# Altium integrated library Actel Axcelerator.IntLib: 162 symbols (part 5 of 43)
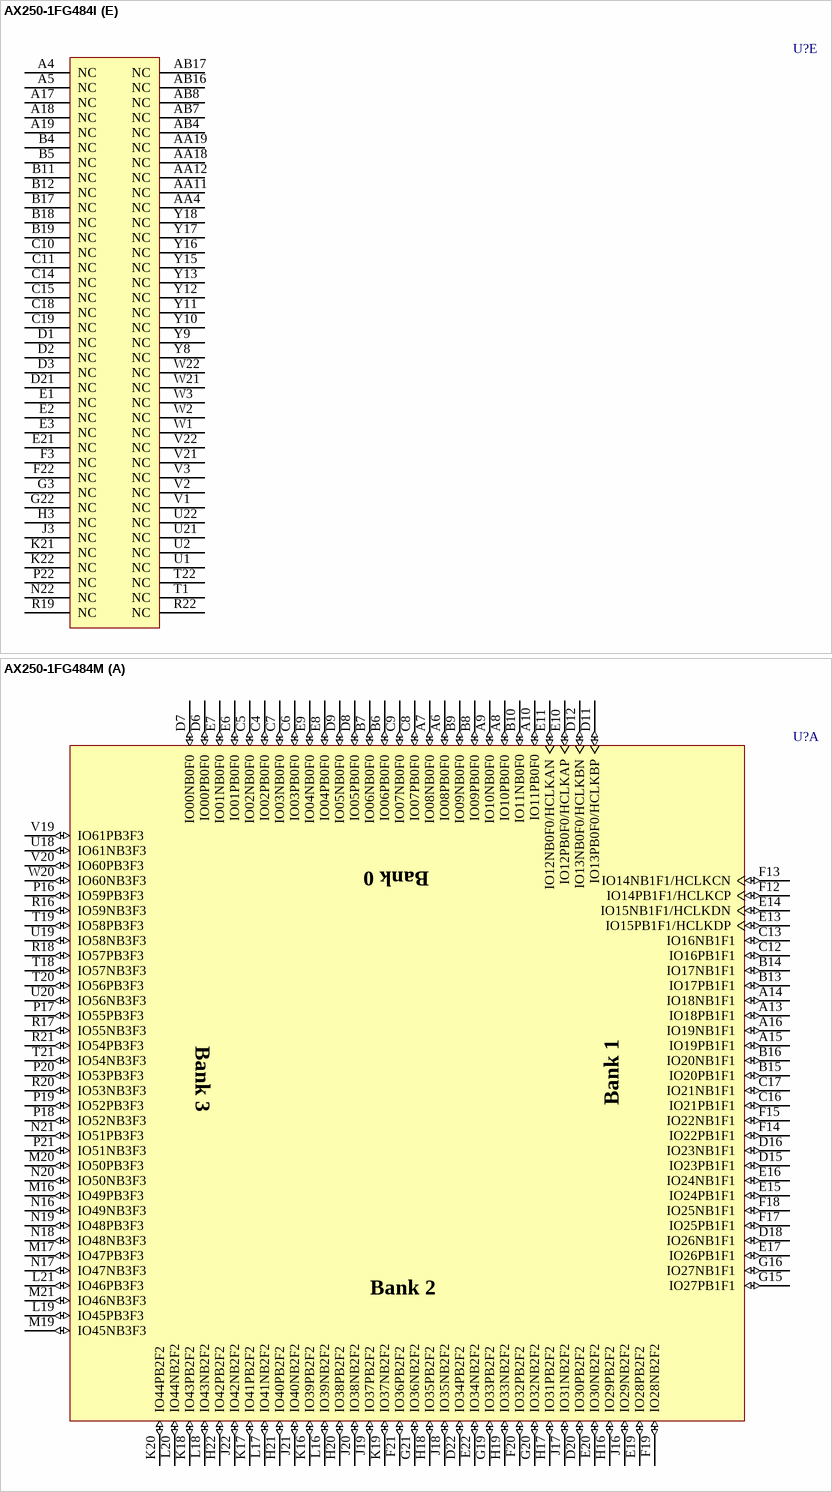
[diagram p403: symbols AX250-1FG484I to AX250-1FG484M]

## AX250-1FG484I
designator U?
Axcelerator AX250 FPGA, 248 User I/Os, 484-Pin FBGA, Speed Grade 1, Industrial Grade; Published: 17-Sep-2003; LatestRevisionDate: 11-Dec-2009; LatestRevisionNote: Updated to datasheet version 2.8 Oct-2009.; DatasheetVersion: v2.8, Oct-2009; PackageVersion: ver11.2, Nov-2009; PackageReference: FG484; Publisher: Altium Limited; PackageDescription: 484-Ball Fine Pitch Plastic Ball Grid Array (FG484) - Fully Populated; Code_JEDEC: MS-034-AAJ-1; Code_IPC: BGA100P22X22-484; ComponentLink1Description: Axcelerator Datasheet; ComponentLink1URL: http://www.actel.com/documents/AX_DS.pdf; ComponentLink2Description: Package Mechanical Drawings; ComponentLink2URL: http://www.actel.com/documents/PckgMechDrwngs.pdf; ComponentLink3Description: Axcelerator Documents; ComponentLink3URL: http://www.actel.com/products/axcelerator/docs.aspx; ComponentLink4Description: Actel.com Home; ComponentLink4URL: http://www.actel.com/
footprint FG484 (BGA, 484-Leads, Body 23x23mm, Pitch 1mm)
part A pins: A6 IO08PB0F0 (io), A7 IO08NB0F0 (io), A8 IO10PB0F0 (io), A9 IO10NB0F0 (io), A10 IO11PB0F0 (io), A13 IO18PB1F1 (io), A14 IO18NB1F1 (io), A15 IO19PB1F1 (io), A16 IO19NB1F1 (io), B6 IO06PB0F0 (io), B7 IO06NB0F0 (io), B8 IO09PB0F0 (io), B9 IO09NB0F0 (io), B10 IO11NB0F0 (io), B13 IO17PB1F1 (io), B14 IO17NB1F1 (io), B15 IO20PB1F1 (io), B16 IO20NB1F1 (io), C4 IO02PB0F0 (io), C5 IO02NB0F0 (io), C6 IO03PB0F0 (io), C7 IO03NB0F0 (io), C8 IO07PB0F0 (io), C9 IO07NB0F0 (io), C12 IO16PB1F1 (io), C13 IO16NB1F1 (io), C16 IO21PB1F1 (io), C17 IO21NB1F1 (io), D6 IO00PB0F0 (io), D7 IO00NB0F0 (io), D8 IO05PB0F0 (io), D9 IO05NB0F0 (io), D11 IO13PB0F0/HCLKBP (io), D12 IO13NB0F0/HCLKBN (io), D15 IO23PB1F1 (io), D16 IO23NB1F1 (io), D18 IO26NB1F1 (io), D20 IO30PB2F2 (io), D22 IO34PB2F2 (io), E6 IO01PB0F0 (io), E7 IO01NB0F0 (io), E8 IO04PB0F0 (io), E9 IO04NB0F0 (io), E10 IO12PB0F0/HCLKAP (io), E11 IO12NB0F0/HCLKAN (io), E13 IO15PB1F1/HCLKDP (io), E14 IO15NB1F1/HCLKDN (io), E15 IO24PB1F1 (io), E16 IO24NB1F1 (io), E17 IO26PB1F1 (io), E19 IO28PB2F2 (io), E20 IO30NB2F2 (io), E22 IO34NB2F2 (io), F12 IO14PB1F1/HCLKCP (io), F13 IO14NB1F1/HCLKCN (io), F14 IO22PB1F1 (io), F15 IO22NB1F1 (io), F17 IO25PB1F1 (io), F18 IO25NB1F1 (io), F19 IO28NB2F2 (io), F20 IO32PB2F2 (io), F21 IO36PB2F2 (io), G15 IO27PB1F1 (io), G16 IO27NB1F1 (io), G19 IO33PB2F2 (io), G20 IO32NB2F2 (io), G21 IO36NB2F2 (io), H16 IO29PB2F2 (io), H17 IO31PB2F2 (io), H18 IO35PB2F2 (io), H19 IO33NB2F2 (io), H20 IO38PB2F2 (io), H21 IO40PB2F2 (io), H22 IO42PB2F2 (io), J16 IO29NB2F2 (io), J17 IO31NB2F2 (io), J18 IO35NB2F2 (io), J19 IO37PB2F2 (io), J20 IO38NB2F2 (io), J21 IO40NB2F2 (io), J22 IO42NB2F2 (io), K16 IO39PB2F2 (io), K17 IO41PB2F2 (io), K18 IO43PB2F2 (io), K19 IO37NB2F2 (io), K20 IO44PB2F2 (io), L16 IO39NB2F2 (io), L17 IO41NB2F2 (io), L18 IO43NB2F2 (io), L19 IO45PB3F3 (io), L20 IO44NB2F2 (io), L21 IO46PB3F3 (io), M16 IO49PB3F3 (io), M17 IO47PB3F3 (io), M19 IO45NB3F3 (io), M20 IO50PB3F3 (io), M21 IO46NB3F3 (io), N16 IO49NB3F3 (io), N17 IO47NB3F3 (io), N18 IO48NB3F3 (io), N19 IO48PB3F3 (io), N20 IO50NB3F3 (io), N21 IO51PB3F3 (io), P16 IO59PB3F3 (io), P17 IO55PB3F3 (io), P18 IO52NB3F3 (io), P19 IO52PB3F3 (io), P20 IO53PB3F3 (io), P21 IO51NB3F3 (io), R16 IO59NB3F3 (io), R17 IO55NB3F3 (io), R18 IO57PB3F3 (io), R20 IO53NB3F3 (io), R21 IO54PB3F3 (io), T18 IO57NB3F3 (io), T19 IO58PB3F3 (io), T20 IO56PB3F3 (io), T21 IO54NB3F3 (io), U18 IO61NB3F3 (io), U19 IO58NB3F3 (io), U20 IO56NB3F3 (io), V19 IO61PB3F3 (io), V20 IO60PB3F3 (io), W20 IO60NB3F3 (io)
part B pins: AA5 IO83NB5F5 (io), AA6 IO83PB5F5 (io), AA7 IO80NB5F5 (io), AA8 IO80PB5F5 (io), AA9 IO78NB5F5 (io), AA10 IO78PB5F5 (io), AA13 IO73NB4F4 (io), AA14 IO72NB4F4 (io), AA15 IO72PB4F4 (io), AA16 IO69NB4F4 (io), AA17 IO69PB4F4 (io), AB5 IO82NB5F5 (io), AB6 IO82PB5F5 (io), AB9 IO79NB5F5 (io), AB10 IO79PB5F5 (io), AB13 IO73PB4F4 (io), AB14 IO70NB4F4 (io), AB15 IO70PB4F4 (io), AB18 IO66NB4F4 (io), AB19 IO66PB4F4 (io), E4 IO123PB7F7 (io), F1 IO120NB7F7 (io), F2 IO118NB7F7 (io), F4 IO121NB7F7 (io), F5 IO123NB7F7 (io), G1 IO120PB7F7 (io), G2 IO118PB7F7 (io), G4 IO121PB7F7 (io), G5 IO122NB7F7 (io), G6 IO122PB7F7 (io), H1 IO114NB7F7 (io), H2 IO115NB7F7 (io), H4 IO116NB7F7 (io), H5 IO117NB7F7 (io), H6 IO119NB7F7 (io), J1 IO114PB7F7 (io), J2 IO115PB7F7 (io), J4 IO116PB7F7 (io), J5 IO117PB7F7 (io), J6 IO119PB7F7 (io), K1 IO109PB7F7 (io), K2 IO109NB7F7 (io), K3 IO112PB7F7 (io), K4 IO112NB7F7 (io), K5 IO110NB7F7 (io), K6 IO111NB7F7 (io), K7 IO113NB7F7 (io), L2 IO108PB7F7 (io), L3 IO108NB7F7 (io), L5 IO110PB7F7 (io), L6 IO111PB7F7 (io), L7 IO113PB7F7 (io), M2 IO107NB7F7 (io), M3 IO106NB6F6 (io), M4 IO104NB6F6 (io), M5 IO105NB6F6 (io), M6 IO103NB6F6 (io), M7 IO101NB6F6 (io), N1 IO107PB7F7 (io), N2 IO102NB6F6 (io), N3 IO106PB6F6 (io), N4 IO104PB6F6 (io), N5 IO105PB6F6 (io), N6 IO103PB6F6 (io), N7 IO101PB6F6 (io), P1 IO100NB6F6 (io), P2 IO102PB6F6 (io), P3 IO97NB6F6 (io), P4 IO99NB6F6 (io), P5 IO95NB6F6 (io), P6 IO93NB6F6 (io), P7 IO91NB6F6 (io), R1 IO100PB6F6 (io), R2 IO98NB6F6 (io), R3 IO97PB6F6 (io), R4 IO99PB6F6 (io), R5 IO95PB6F6 (io), R6 IO93PB6F6 (io), R7 IO91PB6F6 (io), T2 IO98PB6F6 (io), T3 IO96NB6F6 (io), T4 IO94NB6F6 (io), T5 IO92PB6F6 (io), T7 IO89NB5F5 (io), T8 IO89PB5F5 (io), T15 IO62NB4F4 (io), T16 IO62PB4F4 (io), U3 IO96PB6F6 (io), U4 IO94PB6F6 (io), U5 IO92NB6F6 (io), U8 IO84NB5F5 (io), U9 IO84PB5F5 (io), U10 IO76NB5F5/CLKGN (io), U11 IO76PB5F5/CLKGP (io), U14 IO68NB4F4 (io), U15 IO68PB4F4 (io), V4 IO90NB6F6 (io), V6 IO88NB5F5 (io), V7 IO88PB5F5 (io), V9 IO77NB5F5/CLKHN (io), V10 IO77PB5F5/CLKHP (io), V12 IO74NB4F4/CLKEN (io), V13 IO74PB4F4/CLKEP (io), V15 IO64NB4F4 (io), V16 IO64PB4F4 (io), V17 IO63PB4F4 (io), W5 IO90PB6F6 (io), W6 IO86NB5F5 (io), W7 IO86PB5F5 (io), W8 IO81NB5F5 (io), W9 IO81PB5F5 (io), W11 IO75NB4F4/CLKFN (io), W12 IO75PB4F4/CLKFP (io), W14 IO71PB4F4 (io), W15 IO67NB4F4 (io), W16 IO67PB4F4 (io), W17 IO63NB4F4 (io), W18 IO65PB4F4 (io), Y4 IO87NB5F5 (io), Y5 IO87PB5F5 (io), Y6 IO85NB5F5 (io), Y7 IO85PB5F5 (io), Y14 IO71NB4F4 (io), Y19 IO65NB4F4 (io)
part C pins: A3 VCCIB0 (power), A20 VCCIB1 (power), AA3 VCCIB5 (power), AA20 VCCIB4 (power), AB3 VCCIB5 (power), AB20 VCCIB4 (power), B3 VCCIB0 (power), B20 VCCIB1 (power), C1 VCCIB7 (power), C2 VCCIB7 (power), C21 VCCIB2 (power), C22 VCCIB2 (power), D5 VCCDA (power), D10 VCOMPLA (power), D13 VCCPLC (power), D14 VCCDA (power), D17 VPUMP (power), E12 VCOMPLC (power), F6 TMS (in), F7 TDO (hiz), F8 ~{TRST} (in), F9 TDI (in), F10 VCCPLA (power), F11 PRB (out), F16 VCCDA (power), G8 TCK (in), G9 VCCPLB (power), G10 VCOMPLB (power), G11 PRA (out), G12 VCCDA (power), G13 VCCPLD (power), G14 VCOMPLD (power), G17 VCCA (power), H7 VCCDA (power), H9 VCCIB0 (power), H10 VCCIB0 (power), H11 VCCIB0 (power), H12 VCCIB1 (power), H13 VCCIB1 (power), H14 VCCIB1 (power), J7 VCCA (power), J8 VCCIB7 (power), J10 VCCA (power), J11 VCCA (power), J12 VCCA (power), J13 VCCA (power), J15 VCCIB2 (power), K8 VCCIB7 (power), K9 VCCA (power), K14 VCCA (power), K15 VCCIB2 (power), L4 VCCDA (power), L8 VCCIB7 (power), L9 VCCA (power), L14 VCCA (power), L15 VCCIB2 (power), M8 VCCIB6 (power), M9 VCCA (power), M14 VCCA (power), M15 VCCIB3 (power), M18 VCCDA (power), N8 VCCIB6 (power), N9 VCCA (power), N14 VCCA (power), N15 VCCIB3 (power), P8 VCCIB6 (power), P10 VCCA (power), P11 VCCA (power), P12 VCCA (power), P13 VCCA (power), P15 VCCIB3 (power), R9 VCCIB5 (power), R10 VCCIB5 (power), R11 VCCIB5 (power), R12 VCCIB4 (power), R13 VCCIB4 (power), R14 VCCIB4 (power), T6 VCCA (power), T9 VCOMPLH (power), T10 VCCPLH (power), T11 VCCDA (power), T12 PRC (out), T13 VCOMPLF (power), T14 VCCPLF (power), T17 VCCDA (power), U7 VCCDA (power), U12 PRD (out), U13 VCCPLE (power), U17 VCCA (power), V8 VCCDA (power), V11 VCOMPLG (power), V14 VCCDA (power), W10 VCCPLG (power), W13 VCOMPLE (power), Y1 VCCIB6 (power), Y2 VCCIB6 (power), Y21 VCCIB3 (power), Y22 VCCIB3 (power)
part D pins: A1 GND (power), A2 GND (power), A11 GND (power), A12 GND (power), A21 GND (power), A22 GND (power), AA1 GND (power), AA2 GND (power), AA21 GND (power), AA22 GND (power), AB1 GND (power), AB2 GND (power), AB11 GND (power), AB12 GND (power), AB21 GND (power), AB22 GND (power), B1 GND (power), B2 GND (power), B21 GND (power), B22 GND (power), C3 GND (power), C20 GND (power), D4 GND (power), D19 GND (power), E5 GND (power), E18 GND (power), G7 GND/LP (power), G18 GND (power), H8 GND (power), H15 GND (power), J9 GND (power), J14 GND (power), K10 GND (power), K11 GND (power), K12 GND (power), K13 GND (power), L1 GND (power), L10 GND (power), L11 GND (power), L12 GND (power), L13 GND (power), L22 GND (power), M1 GND (power), M10 GND (power), M11 GND (power), M12 GND (power), M13 GND (power), M22 GND (power), N10 GND (power), N11 GND (power), N12 GND (power), N13 GND (power), P9 GND (power), P14 GND (power), R8 GND (power), R15 GND (power), U6 GND (power), U16 GND (power), V5 GND (power), V18 GND (power), W4 GND (power), W19 GND (power), Y3 GND (power), Y20 GND (power)
part E pins: A4 NC, A5 NC, A17 NC, A18 NC, A19 NC, AA4 NC, AA11 NC, AA12 NC, AA18 NC, AA19 NC, AB4 NC, AB7 NC, AB8 NC, AB16 NC, AB17 NC, B4 NC, B5 NC, B11 NC, B12 NC, B17 NC, B18 NC, B19 NC, C10 NC, C11 NC, C14 NC, C15 NC, C18 NC, C19 NC, D1 NC, D2 NC, D3 NC, D21 NC, E1 NC, E2 NC, E3 NC, E21 NC, F3 NC, F22 NC, G3 NC, G22 NC, H3 NC, J3 NC, K21 NC, K22 NC, N22 NC, P22 NC, R19 NC, R22 NC, T1 NC, T22 NC, U1 NC, U2 NC, U21 NC, U22 NC, V1 NC, V2 NC, V3 NC, V21 NC, V22 NC, W1 NC, W2 NC, W3 NC, W21 NC, W22 NC, Y8 NC, Y9 NC, Y10 NC, Y11 NC, Y12 NC, Y13 NC, Y15 NC, Y16 NC, Y17 NC, Y18 NC
part A text: Bank 0; Bank 3; Bank 1; Bank 2
part B text: Bank 4; Bank 7; Bank 5; Bank 6

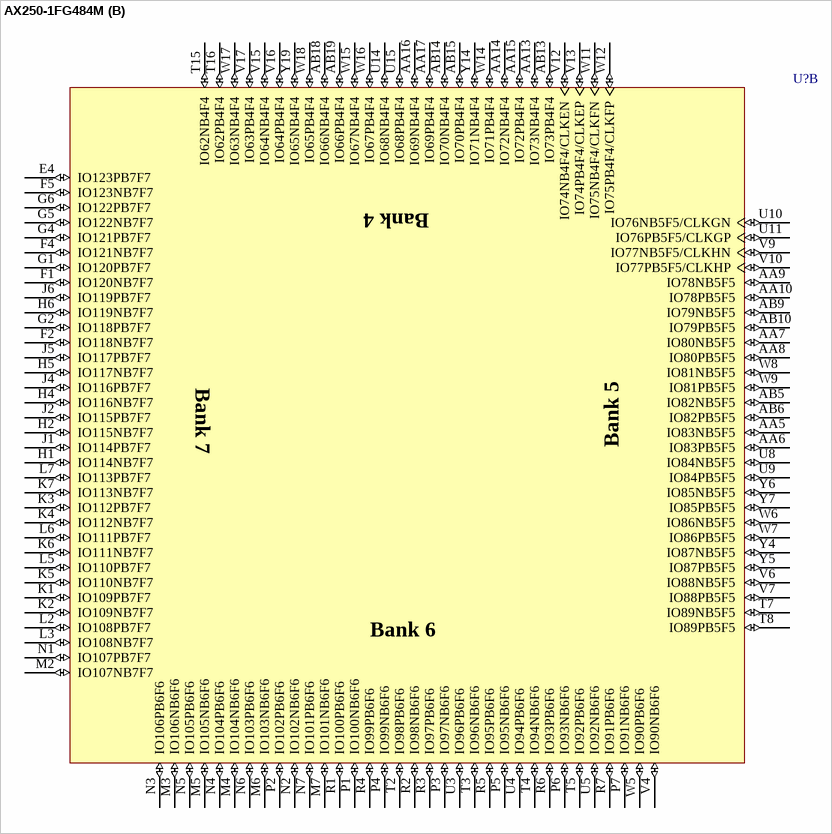
[diagram p52: symbol AX250-1FG484M]

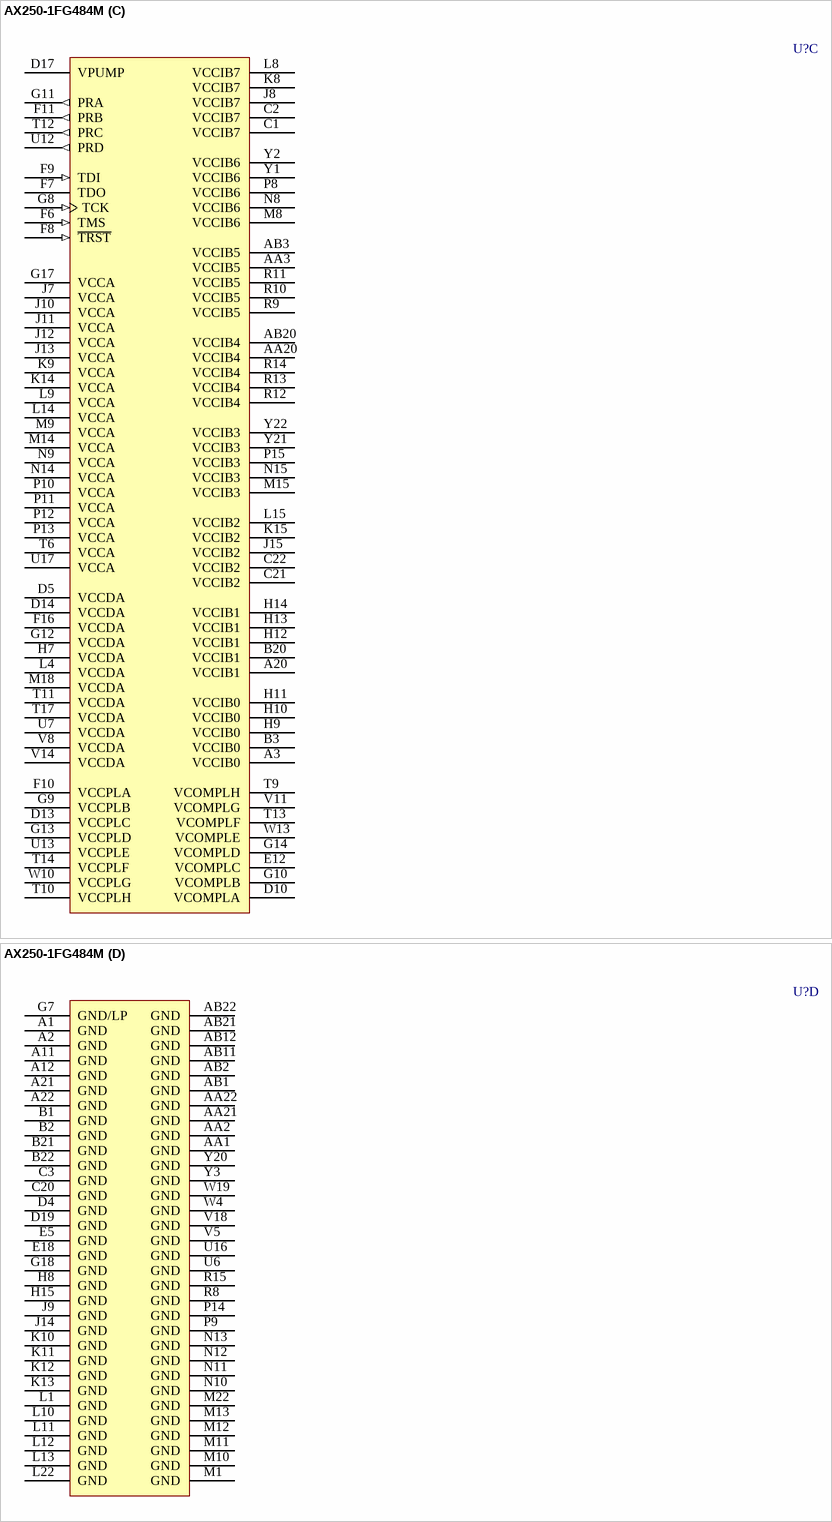
[diagram p53: symbol AX250-1FG484M]

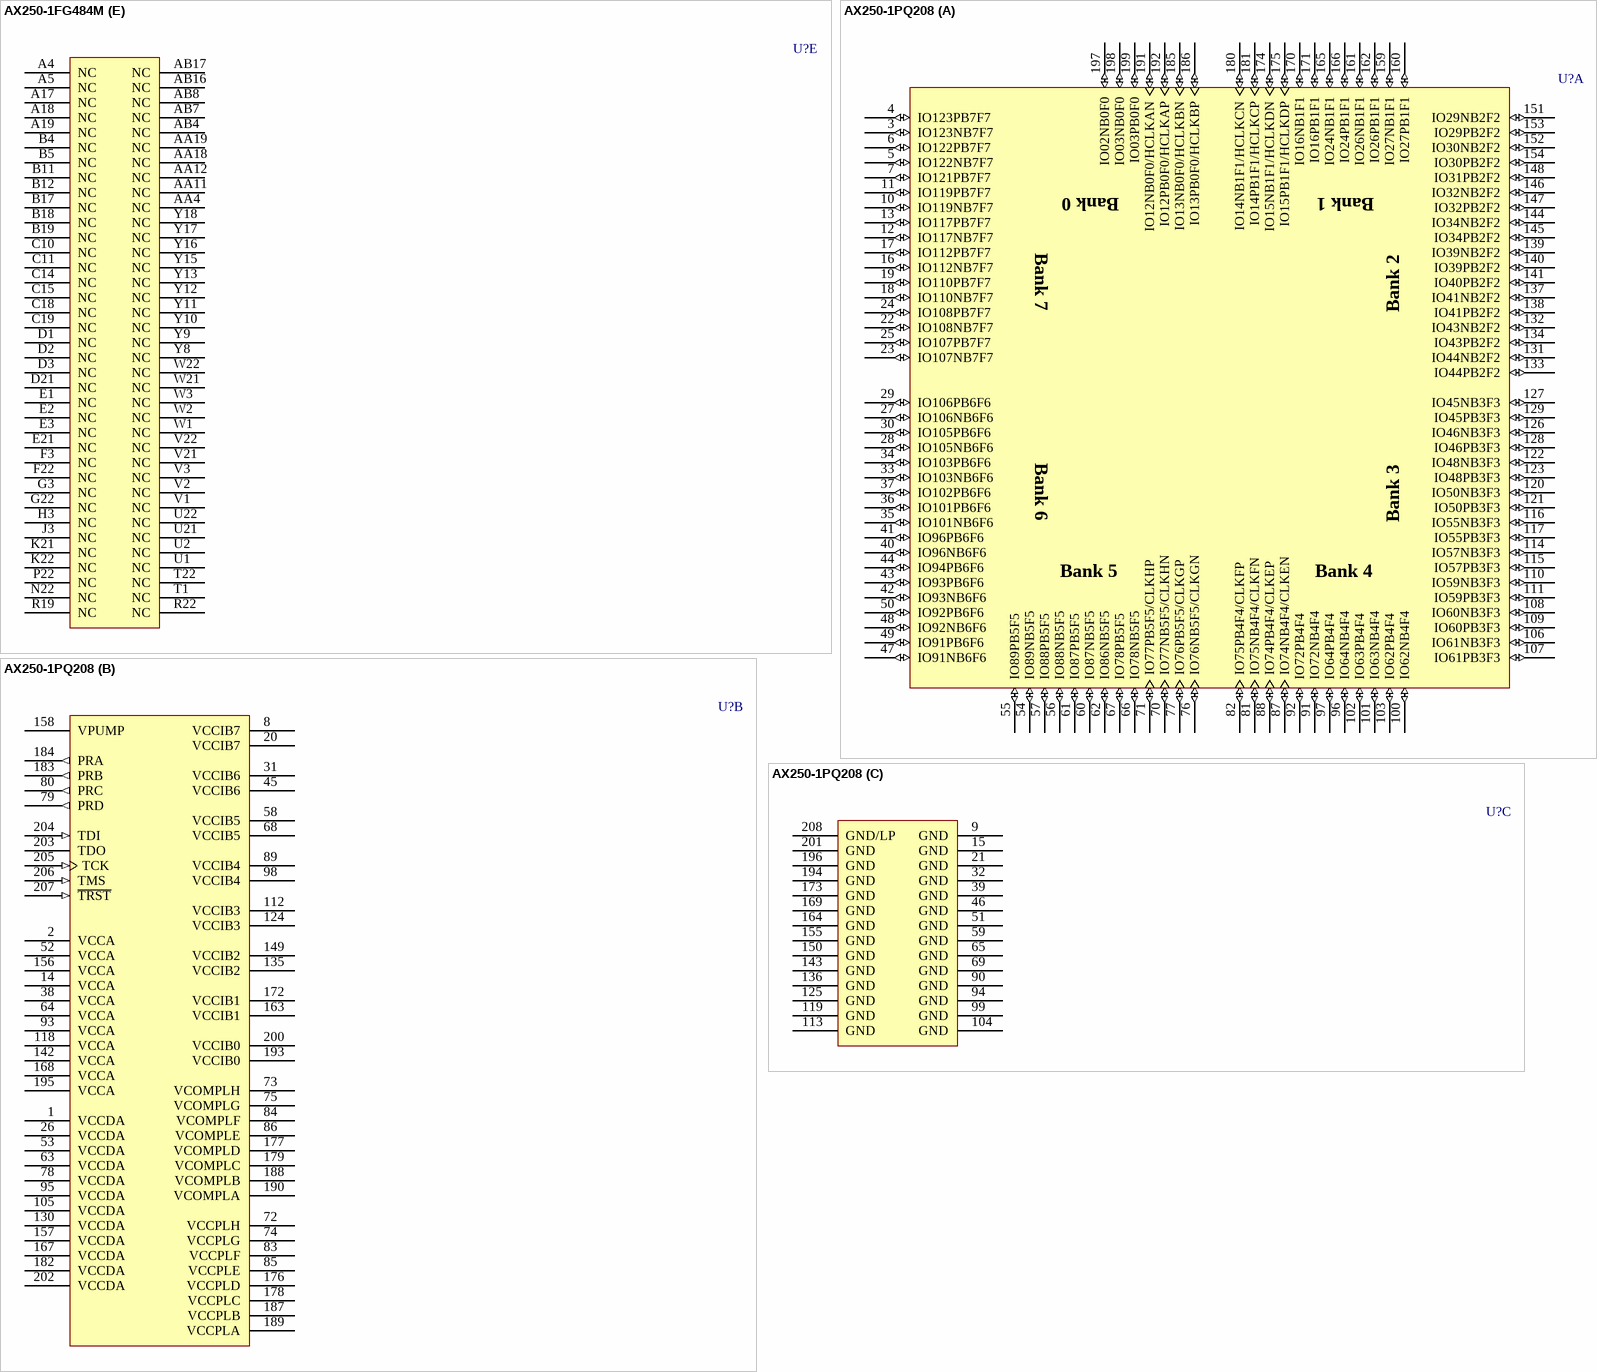
[diagram p54: symbols AX250-1FG484M to AX250-1PQ208]

## AX250-1FG484M
designator U?
Axcelerator AX250 FPGA, 248 User I/Os, 484-Pin FBGA, Speed Grade 1, Military Grade; Published: 11-Dec-2009; DatasheetVersion: v2.8, Oct-2009; PackageVersion: ver11.2, Nov-2009; PackageReference: FG484; Publisher: Altium Limited; PackageDescription: 484-Ball Fine Pitch Plastic Ball Grid Array (FG484) - Fully Populated; Code_JEDEC: MS-034-AAJ-1; Code_IPC: BGA100P22X22-484; ComponentLink1Description: Axcelerator Datasheet; ComponentLink1URL: http://www.actel.com/documents/AX_DS.pdf; ComponentLink2Description: Package Mechanical Drawings; ComponentLink2URL: http://www.actel.com/documents/PckgMechDrwngs.pdf; ComponentLink3Description: Axcelerator Documents; ComponentLink3URL: http://www.actel.com/products/axcelerator/docs.aspx; ComponentLink4Description: Actel.com Home; ComponentLink4URL: http://www.actel.com/
footprint FG484 (BGA, 484-Leads, Body 23x23mm, Pitch 1mm)
part A pins: A6 IO08PB0F0 (io), A7 IO08NB0F0 (io), A8 IO10PB0F0 (io), A9 IO10NB0F0 (io), A10 IO11PB0F0 (io), A13 IO18PB1F1 (io), A14 IO18NB1F1 (io), A15 IO19PB1F1 (io), A16 IO19NB1F1 (io), B6 IO06PB0F0 (io), B7 IO06NB0F0 (io), B8 IO09PB0F0 (io), B9 IO09NB0F0 (io), B10 IO11NB0F0 (io), B13 IO17PB1F1 (io), B14 IO17NB1F1 (io), B15 IO20PB1F1 (io), B16 IO20NB1F1 (io), C4 IO02PB0F0 (io), C5 IO02NB0F0 (io), C6 IO03PB0F0 (io), C7 IO03NB0F0 (io), C8 IO07PB0F0 (io), C9 IO07NB0F0 (io), C12 IO16PB1F1 (io), C13 IO16NB1F1 (io), C16 IO21PB1F1 (io), C17 IO21NB1F1 (io), D6 IO00PB0F0 (io), D7 IO00NB0F0 (io), D8 IO05PB0F0 (io), D9 IO05NB0F0 (io), D11 IO13PB0F0/HCLKBP (io), D12 IO13NB0F0/HCLKBN (io), D15 IO23PB1F1 (io), D16 IO23NB1F1 (io), D18 IO26NB1F1 (io), D20 IO30PB2F2 (io), D22 IO34PB2F2 (io), E6 IO01PB0F0 (io), E7 IO01NB0F0 (io), E8 IO04PB0F0 (io), E9 IO04NB0F0 (io), E10 IO12PB0F0/HCLKAP (io), E11 IO12NB0F0/HCLKAN (io), E13 IO15PB1F1/HCLKDP (io), E14 IO15NB1F1/HCLKDN (io), E15 IO24PB1F1 (io), E16 IO24NB1F1 (io), E17 IO26PB1F1 (io), E19 IO28PB2F2 (io), E20 IO30NB2F2 (io), E22 IO34NB2F2 (io), F12 IO14PB1F1/HCLKCP (io), F13 IO14NB1F1/HCLKCN (io), F14 IO22PB1F1 (io), F15 IO22NB1F1 (io), F17 IO25PB1F1 (io), F18 IO25NB1F1 (io), F19 IO28NB2F2 (io), F20 IO32PB2F2 (io), F21 IO36PB2F2 (io), G15 IO27PB1F1 (io), G16 IO27NB1F1 (io), G19 IO33PB2F2 (io), G20 IO32NB2F2 (io), G21 IO36NB2F2 (io), H16 IO29PB2F2 (io), H17 IO31PB2F2 (io), H18 IO35PB2F2 (io), H19 IO33NB2F2 (io), H20 IO38PB2F2 (io), H21 IO40PB2F2 (io), H22 IO42PB2F2 (io), J16 IO29NB2F2 (io), J17 IO31NB2F2 (io), J18 IO35NB2F2 (io), J19 IO37PB2F2 (io), J20 IO38NB2F2 (io), J21 IO40NB2F2 (io), J22 IO42NB2F2 (io), K16 IO39PB2F2 (io), K17 IO41PB2F2 (io), K18 IO43PB2F2 (io), K19 IO37NB2F2 (io), K20 IO44PB2F2 (io), L16 IO39NB2F2 (io), L17 IO41NB2F2 (io), L18 IO43NB2F2 (io), L19 IO45PB3F3 (io), L20 IO44NB2F2 (io), L21 IO46PB3F3 (io), M16 IO49PB3F3 (io), M17 IO47PB3F3 (io), M19 IO45NB3F3 (io), M20 IO50PB3F3 (io), M21 IO46NB3F3 (io), N16 IO49NB3F3 (io), N17 IO47NB3F3 (io), N18 IO48NB3F3 (io), N19 IO48PB3F3 (io), N20 IO50NB3F3 (io), N21 IO51PB3F3 (io), P16 IO59PB3F3 (io), P17 IO55PB3F3 (io), P18 IO52NB3F3 (io), P19 IO52PB3F3 (io), P20 IO53PB3F3 (io), P21 IO51NB3F3 (io), R16 IO59NB3F3 (io), R17 IO55NB3F3 (io), R18 IO57PB3F3 (io), R20 IO53NB3F3 (io), R21 IO54PB3F3 (io), T18 IO57NB3F3 (io), T19 IO58PB3F3 (io), T20 IO56PB3F3 (io), T21 IO54NB3F3 (io), U18 IO61NB3F3 (io), U19 IO58NB3F3 (io), U20 IO56NB3F3 (io), V19 IO61PB3F3 (io), V20 IO60PB3F3 (io), W20 IO60NB3F3 (io)
part B pins: AA5 IO83NB5F5 (io), AA6 IO83PB5F5 (io), AA7 IO80NB5F5 (io), AA8 IO80PB5F5 (io), AA9 IO78NB5F5 (io), AA10 IO78PB5F5 (io), AA13 IO73NB4F4 (io), AA14 IO72NB4F4 (io), AA15 IO72PB4F4 (io), AA16 IO69NB4F4 (io), AA17 IO69PB4F4 (io), AB5 IO82NB5F5 (io), AB6 IO82PB5F5 (io), AB9 IO79NB5F5 (io), AB10 IO79PB5F5 (io), AB13 IO73PB4F4 (io), AB14 IO70NB4F4 (io), AB15 IO70PB4F4 (io), AB18 IO66NB4F4 (io), AB19 IO66PB4F4 (io), E4 IO123PB7F7 (io), F1 IO120NB7F7 (io), F2 IO118NB7F7 (io), F4 IO121NB7F7 (io), F5 IO123NB7F7 (io), G1 IO120PB7F7 (io), G2 IO118PB7F7 (io), G4 IO121PB7F7 (io), G5 IO122NB7F7 (io), G6 IO122PB7F7 (io), H1 IO114NB7F7 (io), H2 IO115NB7F7 (io), H4 IO116NB7F7 (io), H5 IO117NB7F7 (io), H6 IO119NB7F7 (io), J1 IO114PB7F7 (io), J2 IO115PB7F7 (io), J4 IO116PB7F7 (io), J5 IO117PB7F7 (io), J6 IO119PB7F7 (io), K1 IO109PB7F7 (io), K2 IO109NB7F7 (io), K3 IO112PB7F7 (io), K4 IO112NB7F7 (io), K5 IO110NB7F7 (io), K6 IO111NB7F7 (io), K7 IO113NB7F7 (io), L2 IO108PB7F7 (io), L3 IO108NB7F7 (io), L5 IO110PB7F7 (io), L6 IO111PB7F7 (io), L7 IO113PB7F7 (io), M2 IO107NB7F7 (io), M3 IO106NB6F6 (io), M4 IO104NB6F6 (io), M5 IO105NB6F6 (io), M6 IO103NB6F6 (io), M7 IO101NB6F6 (io), N1 IO107PB7F7 (io), N2 IO102NB6F6 (io), N3 IO106PB6F6 (io), N4 IO104PB6F6 (io), N5 IO105PB6F6 (io), N6 IO103PB6F6 (io), N7 IO101PB6F6 (io), P1 IO100NB6F6 (io), P2 IO102PB6F6 (io), P3 IO97NB6F6 (io), P4 IO99NB6F6 (io), P5 IO95NB6F6 (io), P6 IO93NB6F6 (io), P7 IO91NB6F6 (io), R1 IO100PB6F6 (io), R2 IO98NB6F6 (io), R3 IO97PB6F6 (io), R4 IO99PB6F6 (io), R5 IO95PB6F6 (io), R6 IO93PB6F6 (io), R7 IO91PB6F6 (io), T2 IO98PB6F6 (io), T3 IO96NB6F6 (io), T4 IO94NB6F6 (io), T5 IO92PB6F6 (io), T7 IO89NB5F5 (io), T8 IO89PB5F5 (io), T15 IO62NB4F4 (io), T16 IO62PB4F4 (io), U3 IO96PB6F6 (io), U4 IO94PB6F6 (io), U5 IO92NB6F6 (io), U8 IO84NB5F5 (io), U9 IO84PB5F5 (io), U10 IO76NB5F5/CLKGN (io), U11 IO76PB5F5/CLKGP (io), U14 IO68NB4F4 (io), U15 IO68PB4F4 (io), V4 IO90NB6F6 (io), V6 IO88NB5F5 (io), V7 IO88PB5F5 (io), V9 IO77NB5F5/CLKHN (io), V10 IO77PB5F5/CLKHP (io), V12 IO74NB4F4/CLKEN (io), V13 IO74PB4F4/CLKEP (io), V15 IO64NB4F4 (io), V16 IO64PB4F4 (io), V17 IO63PB4F4 (io), W5 IO90PB6F6 (io), W6 IO86NB5F5 (io), W7 IO86PB5F5 (io), W8 IO81NB5F5 (io), W9 IO81PB5F5 (io), W11 IO75NB4F4/CLKFN (io), W12 IO75PB4F4/CLKFP (io), W14 IO71PB4F4 (io), W15 IO67NB4F4 (io), W16 IO67PB4F4 (io), W17 IO63NB4F4 (io), W18 IO65PB4F4 (io), Y4 IO87NB5F5 (io), Y5 IO87PB5F5 (io), Y6 IO85NB5F5 (io), Y7 IO85PB5F5 (io), Y14 IO71NB4F4 (io), Y19 IO65NB4F4 (io)
part C pins: A3 VCCIB0 (power), A20 VCCIB1 (power), AA3 VCCIB5 (power), AA20 VCCIB4 (power), AB3 VCCIB5 (power), AB20 VCCIB4 (power), B3 VCCIB0 (power), B20 VCCIB1 (power), C1 VCCIB7 (power), C2 VCCIB7 (power), C21 VCCIB2 (power), C22 VCCIB2 (power), D5 VCCDA (power), D10 VCOMPLA (power), D13 VCCPLC (power), D14 VCCDA (power), D17 VPUMP (power), E12 VCOMPLC (power), F6 TMS (in), F7 TDO (hiz), F8 ~{TRST} (in), F9 TDI (in), F10 VCCPLA (power), F11 PRB (out), F16 VCCDA (power), G8 TCK (in), G9 VCCPLB (power), G10 VCOMPLB (power), G11 PRA (out), G12 VCCDA (power), G13 VCCPLD (power), G14 VCOMPLD (power), G17 VCCA (power), H7 VCCDA (power), H9 VCCIB0 (power), H10 VCCIB0 (power), H11 VCCIB0 (power), H12 VCCIB1 (power), H13 VCCIB1 (power), H14 VCCIB1 (power), J7 VCCA (power), J8 VCCIB7 (power), J10 VCCA (power), J11 VCCA (power), J12 VCCA (power), J13 VCCA (power), J15 VCCIB2 (power), K8 VCCIB7 (power), K9 VCCA (power), K14 VCCA (power), K15 VCCIB2 (power), L4 VCCDA (power), L8 VCCIB7 (power), L9 VCCA (power), L14 VCCA (power), L15 VCCIB2 (power), M8 VCCIB6 (power), M9 VCCA (power), M14 VCCA (power), M15 VCCIB3 (power), M18 VCCDA (power), N8 VCCIB6 (power), N9 VCCA (power), N14 VCCA (power), N15 VCCIB3 (power), P8 VCCIB6 (power), P10 VCCA (power), P11 VCCA (power), P12 VCCA (power), P13 VCCA (power), P15 VCCIB3 (power), R9 VCCIB5 (power), R10 VCCIB5 (power), R11 VCCIB5 (power), R12 VCCIB4 (power), R13 VCCIB4 (power), R14 VCCIB4 (power), T6 VCCA (power), T9 VCOMPLH (power), T10 VCCPLH (power), T11 VCCDA (power), T12 PRC (out), T13 VCOMPLF (power), T14 VCCPLF (power), T17 VCCDA (power), U7 VCCDA (power), U12 PRD (out), U13 VCCPLE (power), U17 VCCA (power), V8 VCCDA (power), V11 VCOMPLG (power), V14 VCCDA (power), W10 VCCPLG (power), W13 VCOMPLE (power), Y1 VCCIB6 (power), Y2 VCCIB6 (power), Y21 VCCIB3 (power), Y22 VCCIB3 (power)
part D pins: A1 GND (power), A2 GND (power), A11 GND (power), A12 GND (power), A21 GND (power), A22 GND (power), AA1 GND (power), AA2 GND (power), AA21 GND (power), AA22 GND (power), AB1 GND (power), AB2 GND (power), AB11 GND (power), AB12 GND (power), AB21 GND (power), AB22 GND (power), B1 GND (power), B2 GND (power), B21 GND (power), B22 GND (power), C3 GND (power), C20 GND (power), D4 GND (power), D19 GND (power), E5 GND (power), E18 GND (power), G7 GND/LP (power), G18 GND (power), H8 GND (power), H15 GND (power), J9 GND (power), J14 GND (power), K10 GND (power), K11 GND (power), K12 GND (power), K13 GND (power), L1 GND (power), L10 GND (power), L11 GND (power), L12 GND (power), L13 GND (power), L22 GND (power), M1 GND (power), M10 GND (power), M11 GND (power), M12 GND (power), M13 GND (power), M22 GND (power), N10 GND (power), N11 GND (power), N12 GND (power), N13 GND (power), P9 GND (power), P14 GND (power), R8 GND (power), R15 GND (power), U6 GND (power), U16 GND (power), V5 GND (power), V18 GND (power), W4 GND (power), W19 GND (power), Y3 GND (power), Y20 GND (power)
part E pins: A4 NC, A5 NC, A17 NC, A18 NC, A19 NC, AA4 NC, AA11 NC, AA12 NC, AA18 NC, AA19 NC, AB4 NC, AB7 NC, AB8 NC, AB16 NC, AB17 NC, B4 NC, B5 NC, B11 NC, B12 NC, B17 NC, B18 NC, B19 NC, C10 NC, C11 NC, C14 NC, C15 NC, C18 NC, C19 NC, D1 NC, D2 NC, D3 NC, D21 NC, E1 NC, E2 NC, E3 NC, E21 NC, F3 NC, F22 NC, G3 NC, G22 NC, H3 NC, J3 NC, K21 NC, K22 NC, N22 NC, P22 NC, R19 NC, R22 NC, T1 NC, T22 NC, U1 NC, U2 NC, U21 NC, U22 NC, V1 NC, V2 NC, V3 NC, V21 NC, V22 NC, W1 NC, W2 NC, W3 NC, W21 NC, W22 NC, Y8 NC, Y9 NC, Y10 NC, Y11 NC, Y12 NC, Y13 NC, Y15 NC, Y16 NC, Y17 NC, Y18 NC
part A text: Bank 0; Bank 3; Bank 1; Bank 2
part B text: Bank 4; Bank 7; Bank 5; Bank 6

## AX250-1PQ208
designator U?
Axcelerator AX250 FPGA, 115 User I/Os, 208-Pin PQFP, Speed Grade 1, Commercial Grade; Published: 21-May-2003; LatestRevisionDate: 11-Dec-2009; LatestRevisionNote: Updated to datasheet version 2.8 Oct-2009.; DatasheetVersion: v2.8, Oct-2009; PackageVersion: ver11.2, Nov-2009; PackageReference: PQ208; Publisher: Altium Limited; PackageDescription: 208-Pin Plastic Quad Flat Pack (PQ208); Code_JEDEC: MS-029-FA-1; ComponentLink1Description: Axcelerator Datasheet; ComponentLink1URL: http://www.actel.com/documents/AX_DS.pdf; ComponentLink2Description: Package Mechanical Drawings; ComponentLink2URL: http://www.actel.com/documents/PckgMechDrwngs.pdf; ComponentLink3Description: Axcelerator Documents; ComponentLink3URL: http://www.actel.com/products/axcelerator/docs.aspx; ComponentLink4Description: Actel.com Home; ComponentLink4URL: http://www.actel.com/
footprint PQ208_N (Shrink QFP, 208-Leads, Body 28x28mm, Pitch 0.5mm, IPC Medium Density)
footprint PQ208_L (Shrink QFP, 208-Leads, Body 28x28mm, Pitch 0.5mm, IPC High Density)
footprint PQ208_M (Shrink QFP, 208-Leads, Body 28x28mm, Pitch 0.5mm, IPC Low Density)
part A pins: 3 IO123NB7F7 (io), 4 IO123PB7F7 (io), 5 IO122NB7F7 (io), 6 IO122PB7F7 (io), 7 IO121PB7F7 (io), 10 IO119NB7F7 (io), 11 IO119PB7F7 (io), 12 IO117NB7F7 (io), 13 IO117PB7F7 (io), 16 IO112NB7F7 (io), 17 IO112PB7F7 (io), 18 IO110NB7F7 (io), 19 IO110PB7F7 (io), 22 IO108NB7F7 (io), 23 IO107NB7F7 (io), 24 IO108PB7F7 (io), 25 IO107PB7F7 (io), 27 IO106NB6F6 (io), 28 IO105NB6F6 (io), 29 IO106PB6F6 (io), 30 IO105PB6F6 (io), 33 IO103NB6F6 (io), 34 IO103PB6F6 (io), 35 IO101NB6F6 (io), 36 IO101PB6F6 (io), 37 IO102PB6F6 (io), 40 IO96NB6F6 (io), 41 IO96PB6F6 (io), 42 IO93NB6F6 (io), 43 IO93PB6F6 (io), 44 IO94PB6F6 (io), 47 IO91NB6F6 (io), 48 IO92NB6F6 (io), 49 IO91PB6F6 (io), 50 IO92PB6F6 (io), 54 IO89NB5F5 (io), 55 IO89PB5F5 (io), 56 IO88NB5F5 (io), 57 IO88PB5F5 (io), 60 IO87NB5F5 (io), 61 IO87PB5F5 (io), 62 IO86NB5F5 (io), 66 IO78NB5F5 (io), 67 IO78PB5F5 (io), 70 IO77NB5F5/CLKHN (io), 71 IO77PB5F5/CLKHP (io), 76 IO76NB5F5/CLKGN (io), 77 IO76PB5F5/CLKGP (io), 81 IO75NB4F4/CLKFN (io), 82 IO75PB4F4/CLKFP (io), 87 IO74NB4F4/CLKEN (io), 88 IO74PB4F4/CLKEP (io), 91 IO72NB4F4 (io), 92 IO72PB4F4 (io), 96 IO64NB4F4 (io), 97 IO64PB4F4 (io), 100 IO62NB4F4 (io), 101 IO63NB4F4 (io), 102 IO63PB4F4 (io), 103 IO62PB4F4 (io), 106 IO61NB3F3 (io), 107 IO61PB3F3 (io), 108 IO60NB3F3 (io), 109 IO60PB3F3 (io), 110 IO59NB3F3 (io), 111 IO59PB3F3 (io), 114 IO57NB3F3 (io), 115 IO57PB3F3 (io), 116 IO55NB3F3 (io), 117 IO55PB3F3 (io), 120 IO50NB3F3 (io), 121 IO50PB3F3 (io), 122 IO48NB3F3 (io), 123 IO48PB3F3 (io), 126 IO46NB3F3 (io), 127 IO45NB3F3 (io), 128 IO46PB3F3 (io), 129 IO45PB3F3 (io), 131 IO44NB2F2 (io), 132 IO43NB2F2 (io), 133 IO44PB2F2 (io), 134 IO43PB2F2 (io), 137 IO41NB2F2 (io), 138 IO41PB2F2 (io), 139 IO39NB2F2 (io), 140 IO39PB2F2 (io), 141 IO40PB2F2 (io), 144 IO34NB2F2 (io), 145 IO34PB2F2 (io), 146 IO32NB2F2 (io), 147 IO32PB2F2 (io), 148 IO31PB2F2 (io), 151 IO29NB2F2 (io), 152 IO30NB2F2 (io), 153 IO29PB2F2 (io), 154 IO30PB2F2 (io), 159 IO27NB1F1 (io), 160 IO27PB1F1 (io), 161 IO26NB1F1 (io), 162 IO26PB1F1 (io), 165 IO24NB1F1 (io), 166 IO24PB1F1 (io), 170 IO16NB1F1 (io), 171 IO16PB1F1 (io), 174 IO15NB1F1/HCLKDN (io), 175 IO15PB1F1/HCLKDP (io), 180 IO14NB1F1/HCLKCN (io), 181 IO14PB1F1/HCLKCP (io), 185 IO13NB0F0/HCLKBN (io), 186 IO13PB0F0/HCLKBP (io), 191 IO12NB0F0/HCLKAN (io), 192 IO12PB0F0/HCLKAP (io), 197 IO02NB0F0 (io), 198 IO03NB0F0 (io), 199 IO03PB0F0 (io)
part B pins: 1 VCCDA (power), 2 VCCA (power), 8 VCCIB7 (power), 14 VCCA (power), 20 VCCIB7 (power), 26 VCCDA (power), 31 VCCIB6 (power), 38 VCCA (power), 45 VCCIB6 (power), 52 VCCA (power), 53 VCCDA (power), 58 VCCIB5 (power), 63 VCCDA (power), 64 VCCA (power), 68 VCCIB5 (power), 72 VCCPLH (power), 73 VCOMPLH (power), 74 VCCPLG (power), 75 VCOMPLG (power), 78 VCCDA (power), 79 PRD (out), 80 PRC (out), 83 VCCPLF (power), 84 VCOMPLF (power), 85 VCCPLE (power), 86 VCOMPLE (power), 89 VCCIB4 (power), 93 VCCA (power), 95 VCCDA (power), 98 VCCIB4 (power), 105 VCCDA (power), 112 VCCIB3 (power), 118 VCCA (power), 124 VCCIB3 (power), 130 VCCDA (power), 135 VCCIB2 (power), 142 VCCA (power), 149 VCCIB2 (power), 156 VCCA (power), 157 VCCDA (power), 158 VPUMP (power), 163 VCCIB1 (power), 167 VCCDA (power), 168 VCCA (power), 172 VCCIB1 (power), 176 VCCPLD (power), 177 VCOMPLD (power), 178 VCCPLC (power), 179 VCOMPLC (power), 182 VCCDA (power), 183 PRB (out), 184 PRA (out), 187 VCCPLB (power), 188 VCOMPLB (power), 189 VCCPLA (power), 190 VCOMPLA (power), 193 VCCIB0 (power), 195 VCCA (power), 200 VCCIB0 (power), 202 VCCDA (power), 203 TDO (hiz), 204 TDI (in), 205 TCK (in), 206 TMS (in), 207 ~{TRST} (in)
part C pins: 9 GND (power), 15 GND (power), 21 GND (power), 32 GND (power), 39 GND (power), 46 GND (power), 51 GND (power), 59 GND (power), 65 GND (power), 69 GND (power), 90 GND (power), 94 GND (power), 99 GND (power), 104 GND (power), 113 GND (power), 119 GND (power), 125 GND (power), 136 GND (power), 143 GND (power), 150 GND (power), 155 GND (power), 164 GND (power), 169 GND (power), 173 GND (power), 194 GND (power), 196 GND (power), 201 GND (power), 208 GND/LP (power)
part A text: Bank 0; Bank 1; Bank 7; Bank 2; Bank 6; Bank 3; Bank 5; Bank 4

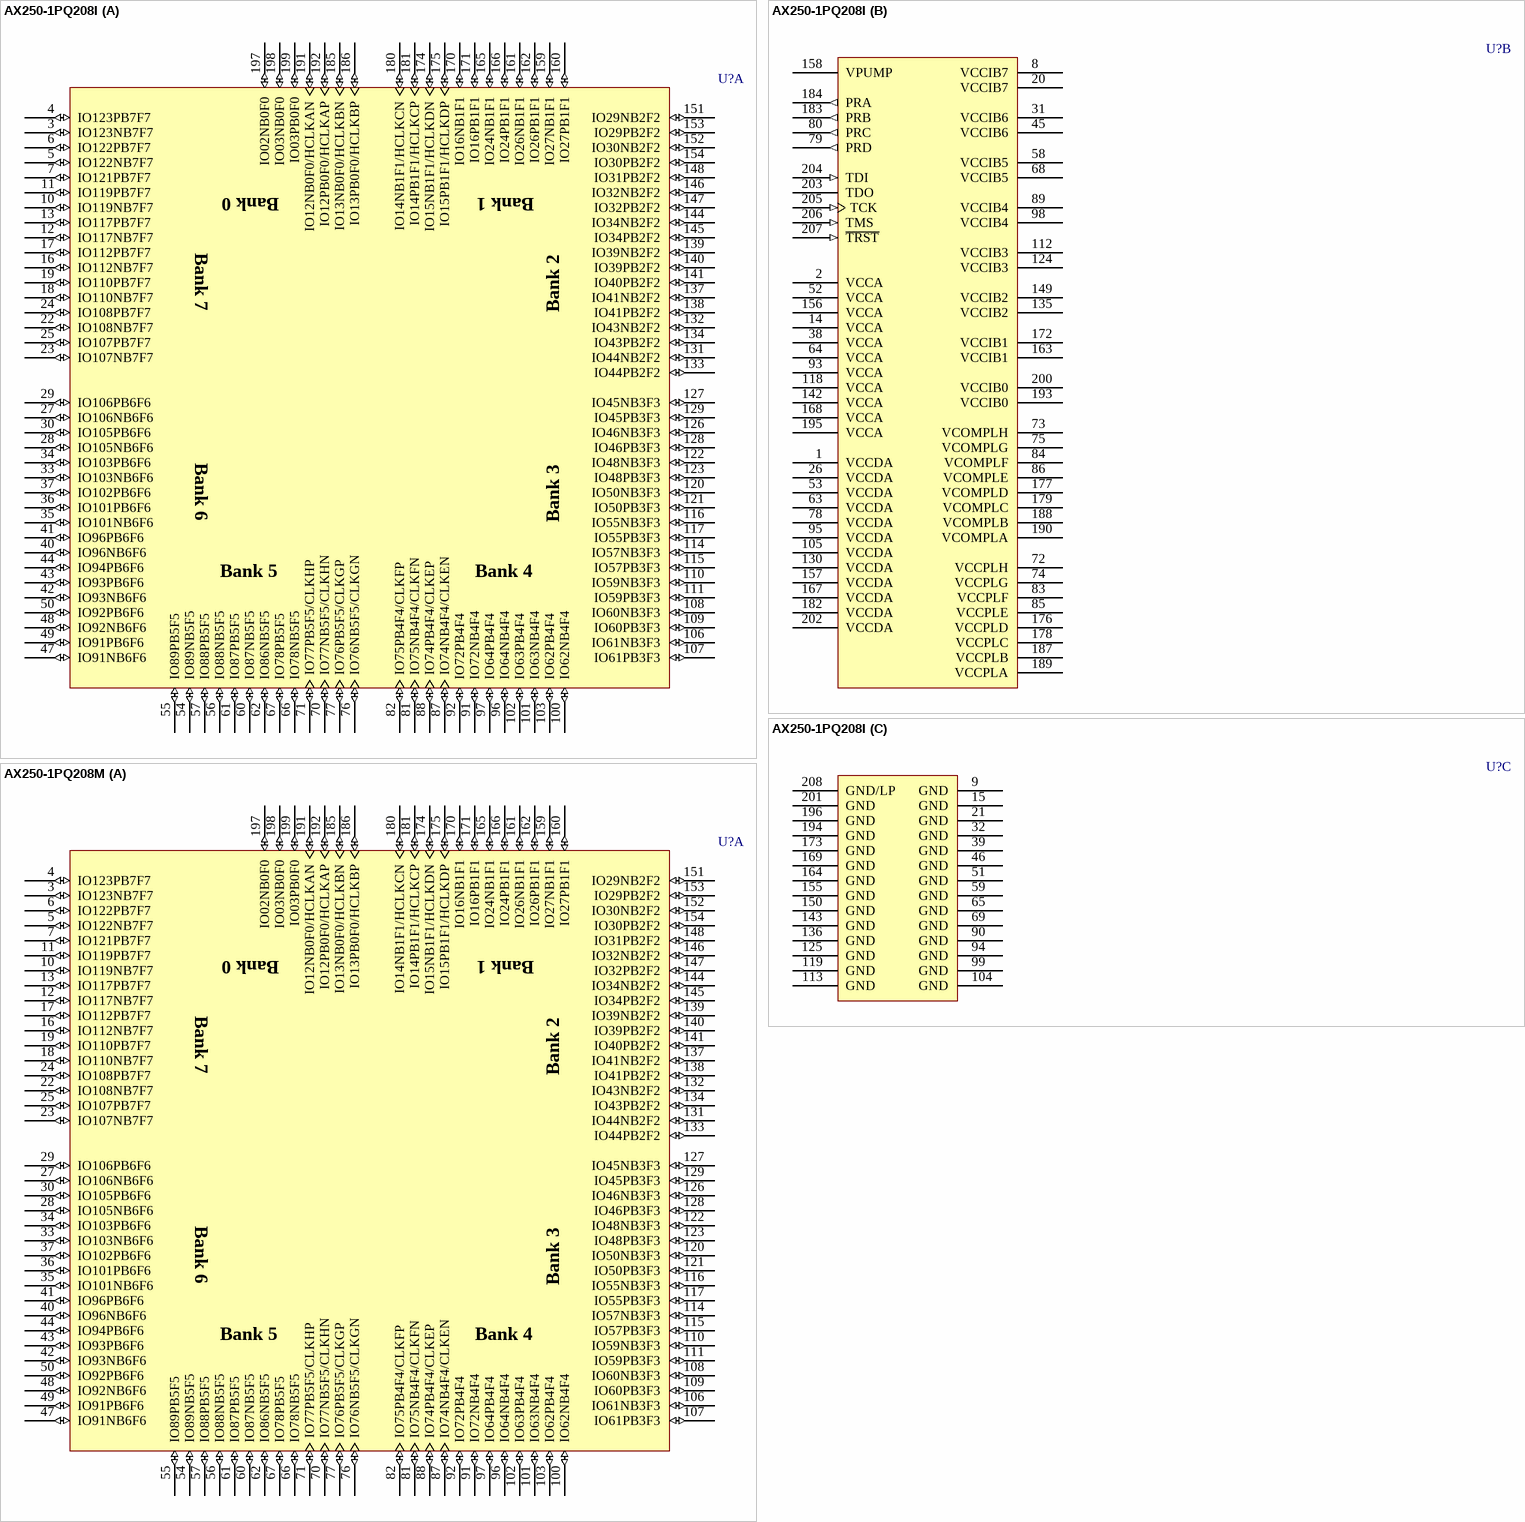
[diagram p55: symbols AX250-1PQ208I to AX250-1PQ208M]

## AX250-1PQ208I
designator U?
Axcelerator AX250 FPGA, 115 User I/Os, 208-Pin PQFP, Speed Grade 1, Industrial Grade; Published: 21-May-2003; LatestRevisionDate: 11-Dec-2009; LatestRevisionNote: Updated to datasheet version 2.8 Oct-2009.; DatasheetVersion: v2.8, Oct-2009; PackageVersion: ver11.2, Nov-2009; PackageReference: PQ208; Publisher: Altium Limited; PackageDescription: 208-Pin Plastic Quad Flat Pack (PQ208); Code_JEDEC: MS-029-FA-1; ComponentLink1Description: Axcelerator Datasheet; ComponentLink1URL: http://www.actel.com/documents/AX_DS.pdf; ComponentLink2Description: Package Mechanical Drawings; ComponentLink2URL: http://www.actel.com/documents/PckgMechDrwngs.pdf; ComponentLink3Description: Axcelerator Documents; ComponentLink3URL: http://www.actel.com/products/axcelerator/docs.aspx; ComponentLink4Description: Actel.com Home; ComponentLink4URL: http://www.actel.com/
footprint PQ208_N (Shrink QFP, 208-Leads, Body 28x28mm, Pitch 0.5mm, IPC Medium Density)
footprint PQ208_L (Shrink QFP, 208-Leads, Body 28x28mm, Pitch 0.5mm, IPC High Density)
footprint PQ208_M (Shrink QFP, 208-Leads, Body 28x28mm, Pitch 0.5mm, IPC Low Density)
part A pins: 3 IO123NB7F7 (io), 4 IO123PB7F7 (io), 5 IO122NB7F7 (io), 6 IO122PB7F7 (io), 7 IO121PB7F7 (io), 10 IO119NB7F7 (io), 11 IO119PB7F7 (io), 12 IO117NB7F7 (io), 13 IO117PB7F7 (io), 16 IO112NB7F7 (io), 17 IO112PB7F7 (io), 18 IO110NB7F7 (io), 19 IO110PB7F7 (io), 22 IO108NB7F7 (io), 23 IO107NB7F7 (io), 24 IO108PB7F7 (io), 25 IO107PB7F7 (io), 27 IO106NB6F6 (io), 28 IO105NB6F6 (io), 29 IO106PB6F6 (io), 30 IO105PB6F6 (io), 33 IO103NB6F6 (io), 34 IO103PB6F6 (io), 35 IO101NB6F6 (io), 36 IO101PB6F6 (io), 37 IO102PB6F6 (io), 40 IO96NB6F6 (io), 41 IO96PB6F6 (io), 42 IO93NB6F6 (io), 43 IO93PB6F6 (io), 44 IO94PB6F6 (io), 47 IO91NB6F6 (io), 48 IO92NB6F6 (io), 49 IO91PB6F6 (io), 50 IO92PB6F6 (io), 54 IO89NB5F5 (io), 55 IO89PB5F5 (io), 56 IO88NB5F5 (io), 57 IO88PB5F5 (io), 60 IO87NB5F5 (io), 61 IO87PB5F5 (io), 62 IO86NB5F5 (io), 66 IO78NB5F5 (io), 67 IO78PB5F5 (io), 70 IO77NB5F5/CLKHN (io), 71 IO77PB5F5/CLKHP (io), 76 IO76NB5F5/CLKGN (io), 77 IO76PB5F5/CLKGP (io), 81 IO75NB4F4/CLKFN (io), 82 IO75PB4F4/CLKFP (io), 87 IO74NB4F4/CLKEN (io), 88 IO74PB4F4/CLKEP (io), 91 IO72NB4F4 (io), 92 IO72PB4F4 (io), 96 IO64NB4F4 (io), 97 IO64PB4F4 (io), 100 IO62NB4F4 (io), 101 IO63NB4F4 (io), 102 IO63PB4F4 (io), 103 IO62PB4F4 (io), 106 IO61NB3F3 (io), 107 IO61PB3F3 (io), 108 IO60NB3F3 (io), 109 IO60PB3F3 (io), 110 IO59NB3F3 (io), 111 IO59PB3F3 (io), 114 IO57NB3F3 (io), 115 IO57PB3F3 (io), 116 IO55NB3F3 (io), 117 IO55PB3F3 (io), 120 IO50NB3F3 (io), 121 IO50PB3F3 (io), 122 IO48NB3F3 (io), 123 IO48PB3F3 (io), 126 IO46NB3F3 (io), 127 IO45NB3F3 (io), 128 IO46PB3F3 (io), 129 IO45PB3F3 (io), 131 IO44NB2F2 (io), 132 IO43NB2F2 (io), 133 IO44PB2F2 (io), 134 IO43PB2F2 (io), 137 IO41NB2F2 (io), 138 IO41PB2F2 (io), 139 IO39NB2F2 (io), 140 IO39PB2F2 (io), 141 IO40PB2F2 (io), 144 IO34NB2F2 (io), 145 IO34PB2F2 (io), 146 IO32NB2F2 (io), 147 IO32PB2F2 (io), 148 IO31PB2F2 (io), 151 IO29NB2F2 (io), 152 IO30NB2F2 (io), 153 IO29PB2F2 (io), 154 IO30PB2F2 (io), 159 IO27NB1F1 (io), 160 IO27PB1F1 (io), 161 IO26NB1F1 (io), 162 IO26PB1F1 (io), 165 IO24NB1F1 (io), 166 IO24PB1F1 (io), 170 IO16NB1F1 (io), 171 IO16PB1F1 (io), 174 IO15NB1F1/HCLKDN (io), 175 IO15PB1F1/HCLKDP (io), 180 IO14NB1F1/HCLKCN (io), 181 IO14PB1F1/HCLKCP (io), 185 IO13NB0F0/HCLKBN (io), 186 IO13PB0F0/HCLKBP (io), 191 IO12NB0F0/HCLKAN (io), 192 IO12PB0F0/HCLKAP (io), 197 IO02NB0F0 (io), 198 IO03NB0F0 (io), 199 IO03PB0F0 (io)
part B pins: 1 VCCDA (power), 2 VCCA (power), 8 VCCIB7 (power), 14 VCCA (power), 20 VCCIB7 (power), 26 VCCDA (power), 31 VCCIB6 (power), 38 VCCA (power), 45 VCCIB6 (power), 52 VCCA (power), 53 VCCDA (power), 58 VCCIB5 (power), 63 VCCDA (power), 64 VCCA (power), 68 VCCIB5 (power), 72 VCCPLH (power), 73 VCOMPLH (power), 74 VCCPLG (power), 75 VCOMPLG (power), 78 VCCDA (power), 79 PRD (out), 80 PRC (out), 83 VCCPLF (power), 84 VCOMPLF (power), 85 VCCPLE (power), 86 VCOMPLE (power), 89 VCCIB4 (power), 93 VCCA (power), 95 VCCDA (power), 98 VCCIB4 (power), 105 VCCDA (power), 112 VCCIB3 (power), 118 VCCA (power), 124 VCCIB3 (power), 130 VCCDA (power), 135 VCCIB2 (power), 142 VCCA (power), 149 VCCIB2 (power), 156 VCCA (power), 157 VCCDA (power), 158 VPUMP (power), 163 VCCIB1 (power), 167 VCCDA (power), 168 VCCA (power), 172 VCCIB1 (power), 176 VCCPLD (power), 177 VCOMPLD (power), 178 VCCPLC (power), 179 VCOMPLC (power), 182 VCCDA (power), 183 PRB (out), 184 PRA (out), 187 VCCPLB (power), 188 VCOMPLB (power), 189 VCCPLA (power), 190 VCOMPLA (power), 193 VCCIB0 (power), 195 VCCA (power), 200 VCCIB0 (power), 202 VCCDA (power), 203 TDO (hiz), 204 TDI (in), 205 TCK (in), 206 TMS (in), 207 ~{TRST} (in)
part C pins: 9 GND (power), 15 GND (power), 21 GND (power), 32 GND (power), 39 GND (power), 46 GND (power), 51 GND (power), 59 GND (power), 65 GND (power), 69 GND (power), 90 GND (power), 94 GND (power), 99 GND (power), 104 GND (power), 113 GND (power), 119 GND (power), 125 GND (power), 136 GND (power), 143 GND (power), 150 GND (power), 155 GND (power), 164 GND (power), 169 GND (power), 173 GND (power), 194 GND (power), 196 GND (power), 201 GND (power), 208 GND/LP (power)
part A text: Bank 0; Bank 1; Bank 7; Bank 2; Bank 6; Bank 3; Bank 5; Bank 4

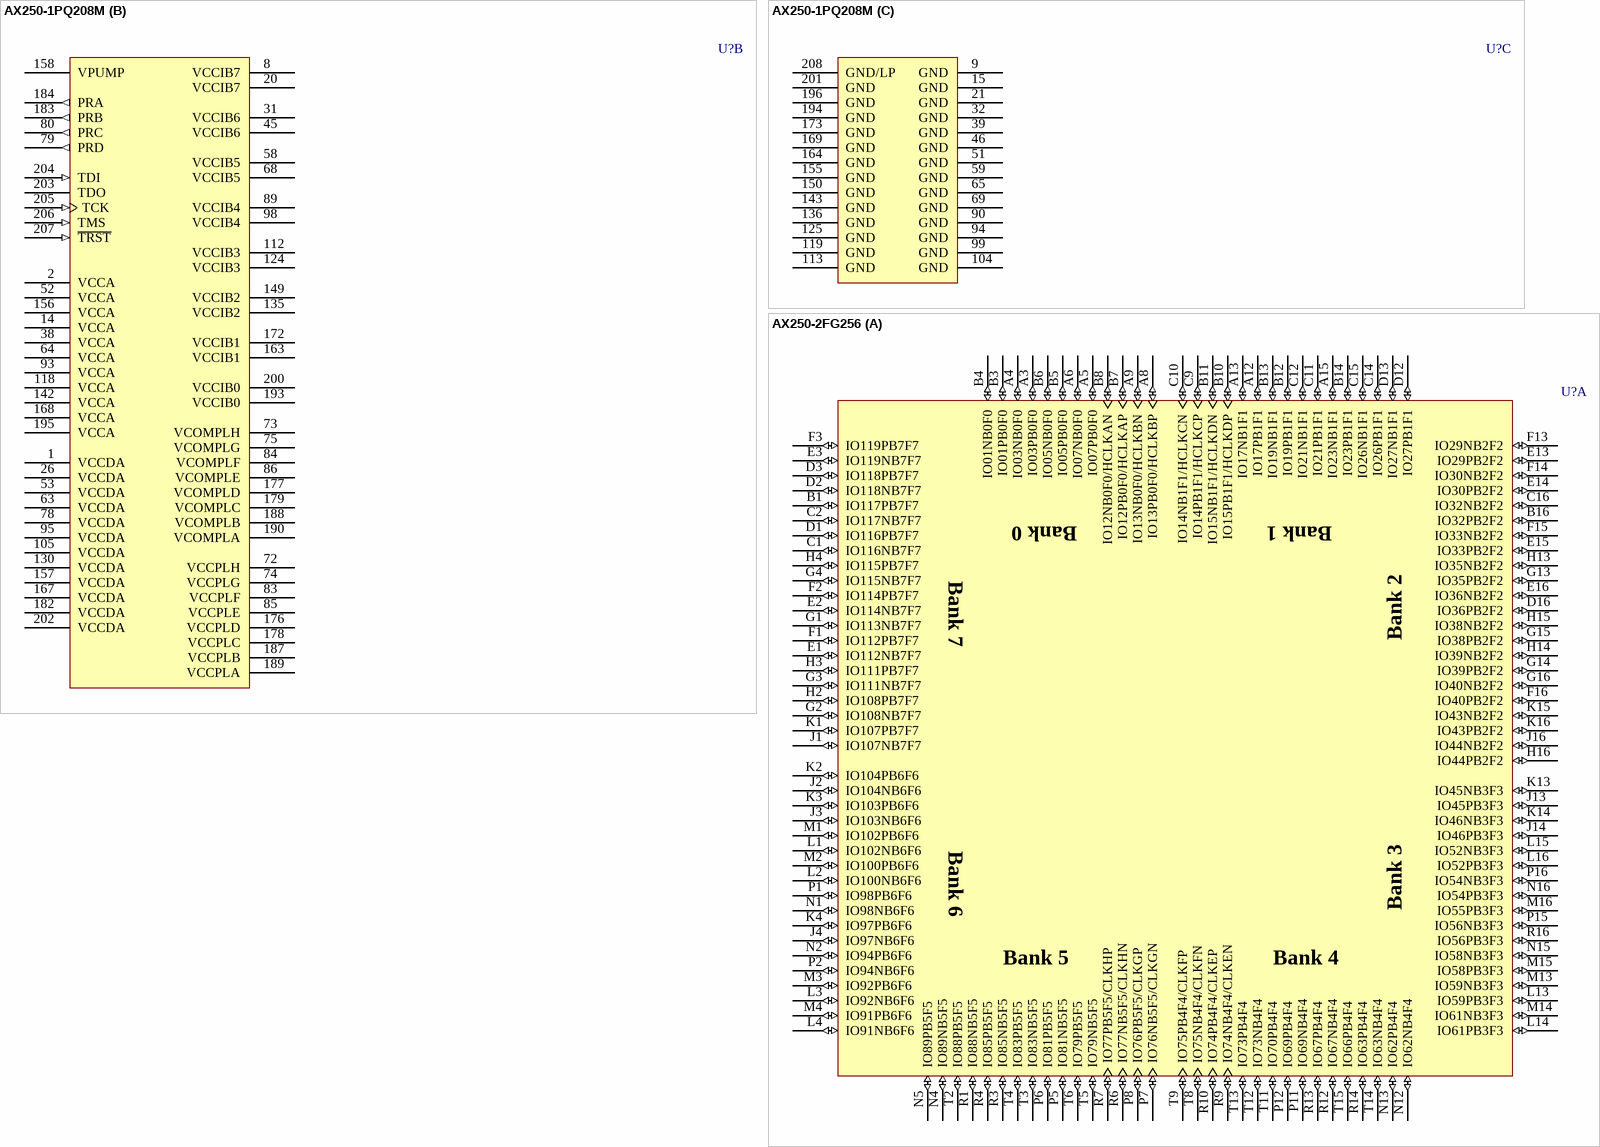
[diagram p56: symbols AX250-1PQ208M to AX250-2FG256]

## AX250-1PQ208M
designator U?
Axcelerator AX250 FPGA, 115 User I/Os, 208-Pin PQFP, Speed Grade 1, Military Grade; Published: 11-Dec-2009; DatasheetVersion: v2.8, Oct-2009; PackageVersion: ver11.2, Nov-2009; PackageReference: PQ208; Publisher: Altium Limited; PackageDescription: 208-Pin Plastic Quad Flat Pack (PQ208); Code_JEDEC: MS-029-FA-1; ComponentLink1Description: Axcelerator Datasheet; ComponentLink1URL: http://www.actel.com/documents/AX_DS.pdf; ComponentLink2Description: Package Mechanical Drawings; ComponentLink2URL: http://www.actel.com/documents/PckgMechDrwngs.pdf; ComponentLink3Description: Axcelerator Documents; ComponentLink3URL: http://www.actel.com/products/axcelerator/docs.aspx; ComponentLink4Description: Actel.com Home; ComponentLink4URL: http://www.actel.com/
footprint PQ208_N (Shrink QFP, 208-Leads, Body 28x28mm, Pitch 0.5mm, IPC Medium Density)
footprint PQ208_L (Shrink QFP, 208-Leads, Body 28x28mm, Pitch 0.5mm, IPC High Density)
footprint PQ208_M (Shrink QFP, 208-Leads, Body 28x28mm, Pitch 0.5mm, IPC Low Density)
part A pins: 3 IO123NB7F7 (io), 4 IO123PB7F7 (io), 5 IO122NB7F7 (io), 6 IO122PB7F7 (io), 7 IO121PB7F7 (io), 10 IO119NB7F7 (io), 11 IO119PB7F7 (io), 12 IO117NB7F7 (io), 13 IO117PB7F7 (io), 16 IO112NB7F7 (io), 17 IO112PB7F7 (io), 18 IO110NB7F7 (io), 19 IO110PB7F7 (io), 22 IO108NB7F7 (io), 23 IO107NB7F7 (io), 24 IO108PB7F7 (io), 25 IO107PB7F7 (io), 27 IO106NB6F6 (io), 28 IO105NB6F6 (io), 29 IO106PB6F6 (io), 30 IO105PB6F6 (io), 33 IO103NB6F6 (io), 34 IO103PB6F6 (io), 35 IO101NB6F6 (io), 36 IO101PB6F6 (io), 37 IO102PB6F6 (io), 40 IO96NB6F6 (io), 41 IO96PB6F6 (io), 42 IO93NB6F6 (io), 43 IO93PB6F6 (io), 44 IO94PB6F6 (io), 47 IO91NB6F6 (io), 48 IO92NB6F6 (io), 49 IO91PB6F6 (io), 50 IO92PB6F6 (io), 54 IO89NB5F5 (io), 55 IO89PB5F5 (io), 56 IO88NB5F5 (io), 57 IO88PB5F5 (io), 60 IO87NB5F5 (io), 61 IO87PB5F5 (io), 62 IO86NB5F5 (io), 66 IO78NB5F5 (io), 67 IO78PB5F5 (io), 70 IO77NB5F5/CLKHN (io), 71 IO77PB5F5/CLKHP (io), 76 IO76NB5F5/CLKGN (io), 77 IO76PB5F5/CLKGP (io), 81 IO75NB4F4/CLKFN (io), 82 IO75PB4F4/CLKFP (io), 87 IO74NB4F4/CLKEN (io), 88 IO74PB4F4/CLKEP (io), 91 IO72NB4F4 (io), 92 IO72PB4F4 (io), 96 IO64NB4F4 (io), 97 IO64PB4F4 (io), 100 IO62NB4F4 (io), 101 IO63NB4F4 (io), 102 IO63PB4F4 (io), 103 IO62PB4F4 (io), 106 IO61NB3F3 (io), 107 IO61PB3F3 (io), 108 IO60NB3F3 (io), 109 IO60PB3F3 (io), 110 IO59NB3F3 (io), 111 IO59PB3F3 (io), 114 IO57NB3F3 (io), 115 IO57PB3F3 (io), 116 IO55NB3F3 (io), 117 IO55PB3F3 (io), 120 IO50NB3F3 (io), 121 IO50PB3F3 (io), 122 IO48NB3F3 (io), 123 IO48PB3F3 (io), 126 IO46NB3F3 (io), 127 IO45NB3F3 (io), 128 IO46PB3F3 (io), 129 IO45PB3F3 (io), 131 IO44NB2F2 (io), 132 IO43NB2F2 (io), 133 IO44PB2F2 (io), 134 IO43PB2F2 (io), 137 IO41NB2F2 (io), 138 IO41PB2F2 (io), 139 IO39NB2F2 (io), 140 IO39PB2F2 (io), 141 IO40PB2F2 (io), 144 IO34NB2F2 (io), 145 IO34PB2F2 (io), 146 IO32NB2F2 (io), 147 IO32PB2F2 (io), 148 IO31PB2F2 (io), 151 IO29NB2F2 (io), 152 IO30NB2F2 (io), 153 IO29PB2F2 (io), 154 IO30PB2F2 (io), 159 IO27NB1F1 (io), 160 IO27PB1F1 (io), 161 IO26NB1F1 (io), 162 IO26PB1F1 (io), 165 IO24NB1F1 (io), 166 IO24PB1F1 (io), 170 IO16NB1F1 (io), 171 IO16PB1F1 (io), 174 IO15NB1F1/HCLKDN (io), 175 IO15PB1F1/HCLKDP (io), 180 IO14NB1F1/HCLKCN (io), 181 IO14PB1F1/HCLKCP (io), 185 IO13NB0F0/HCLKBN (io), 186 IO13PB0F0/HCLKBP (io), 191 IO12NB0F0/HCLKAN (io), 192 IO12PB0F0/HCLKAP (io), 197 IO02NB0F0 (io), 198 IO03NB0F0 (io), 199 IO03PB0F0 (io)
part B pins: 1 VCCDA (power), 2 VCCA (power), 8 VCCIB7 (power), 14 VCCA (power), 20 VCCIB7 (power), 26 VCCDA (power), 31 VCCIB6 (power), 38 VCCA (power), 45 VCCIB6 (power), 52 VCCA (power), 53 VCCDA (power), 58 VCCIB5 (power), 63 VCCDA (power), 64 VCCA (power), 68 VCCIB5 (power), 72 VCCPLH (power), 73 VCOMPLH (power), 74 VCCPLG (power), 75 VCOMPLG (power), 78 VCCDA (power), 79 PRD (out), 80 PRC (out), 83 VCCPLF (power), 84 VCOMPLF (power), 85 VCCPLE (power), 86 VCOMPLE (power), 89 VCCIB4 (power), 93 VCCA (power), 95 VCCDA (power), 98 VCCIB4 (power), 105 VCCDA (power), 112 VCCIB3 (power), 118 VCCA (power), 124 VCCIB3 (power), 130 VCCDA (power), 135 VCCIB2 (power), 142 VCCA (power), 149 VCCIB2 (power), 156 VCCA (power), 157 VCCDA (power), 158 VPUMP (power), 163 VCCIB1 (power), 167 VCCDA (power), 168 VCCA (power), 172 VCCIB1 (power), 176 VCCPLD (power), 177 VCOMPLD (power), 178 VCCPLC (power), 179 VCOMPLC (power), 182 VCCDA (power), 183 PRB (out), 184 PRA (out), 187 VCCPLB (power), 188 VCOMPLB (power), 189 VCCPLA (power), 190 VCOMPLA (power), 193 VCCIB0 (power), 195 VCCA (power), 200 VCCIB0 (power), 202 VCCDA (power), 203 TDO (hiz), 204 TDI (in), 205 TCK (in), 206 TMS (in), 207 ~{TRST} (in)
part C pins: 9 GND (power), 15 GND (power), 21 GND (power), 32 GND (power), 39 GND (power), 46 GND (power), 51 GND (power), 59 GND (power), 65 GND (power), 69 GND (power), 90 GND (power), 94 GND (power), 99 GND (power), 104 GND (power), 113 GND (power), 119 GND (power), 125 GND (power), 136 GND (power), 143 GND (power), 150 GND (power), 155 GND (power), 164 GND (power), 169 GND (power), 173 GND (power), 194 GND (power), 196 GND (power), 201 GND (power), 208 GND/LP (power)
part A text: Bank 0; Bank 1; Bank 7; Bank 2; Bank 6; Bank 3; Bank 5; Bank 4

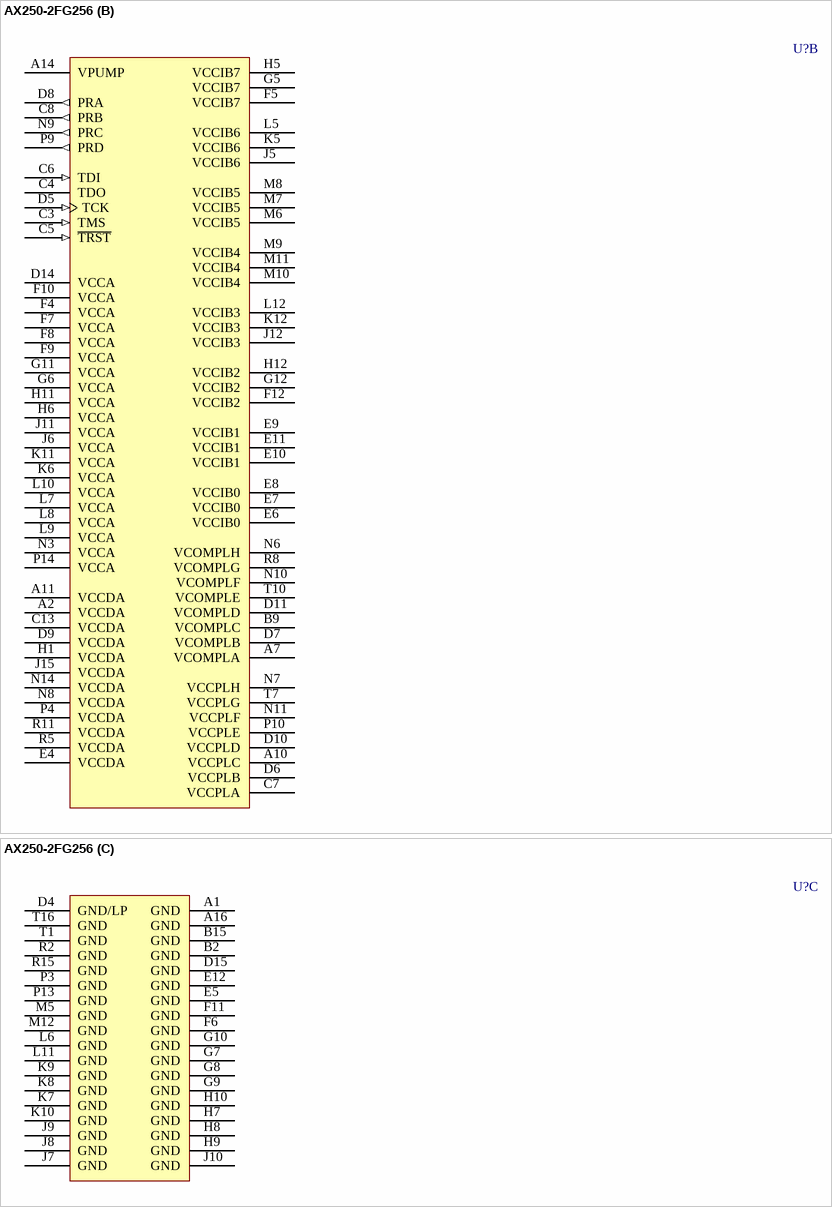
[diagram p57: symbol AX250-2FG256]

## AX250-2FG256
designator U?
Axcelerator AX250 FPGA, 138 User I/Os, 256-Pin FBGA, Speed Grade 2, Commercial Grade; Published: 21-May-2003; LatestRevisionDate: 11-Dec-2009; LatestRevisionNote: Updated to datasheet version 2.9 Oct-2009.; DatasheetVersion: v2.8, Oct-2009; PackageVersion: ver11.2, Nov-2009; PackageReference: FG256; Publisher: Altium Limited; PackageDescription: 256-Ball Fine Pitch Plastic Ball Grid Array 1.00 mm Pitch (FG256); Code_JEDEC: MO-192-DAF-1; ComponentLink1Description: Axcelerator Datasheet; ComponentLink1URL: http://www.actel.com/documents/AX_DS.pdf; ComponentLink2Description: Package Mechanical Drawings; ComponentLink2URL: http://www.actel.com/documents/PckgMechDrwngs.pdf; ComponentLink3Description: Axcelerator Documents; ComponentLink3URL: http://www.actel.com/products/axcelerator/docs.aspx; ComponentLink4Description: Actel.com Home; ComponentLink4URL: http://www.actel.com/
footprint FG256 (BGA, 256-Leads, Body 17x17mm, Pitch 1mm)
part A pins: A3 IO03PB0F0 (io), A4 IO03NB0F0 (io), A5 IO07PB0F0 (io), A6 IO07NB0F0 (io), A8 IO13PB0F0/HCLKBP (io), A9 IO13NB0F0/HCLKBN (io), A12 IO17PB1F1 (io), A13 IO17NB1F1 (io), A15 IO23NB1F1 (io), B1 IO117PB7F7 (io), B3 IO01PB0F0 (io), B4 IO01NB0F0 (io), B5 IO05PB0F0 (io), B6 IO05NB0F0 (io), B7 IO12PB0F0/HCLKAP (io), B8 IO12NB0F0/HCLKAN (io), B10 IO15PB1F1/HCLKDP (io), B11 IO15NB1F1/HCLKDN (io), B12 IO19PB1F1 (io), B13 IO19NB1F1 (io), B14 IO23PB1F1 (io), B16 IO32PB2F2 (io), C1 IO116NB7F7 (io), C2 IO117NB7F7 (io), C9 IO14PB1F1/HCLKCP (io), C10 IO14NB1F1/HCLKCN (io), C11 IO21PB1F1 (io), C12 IO21NB1F1 (io), C14 IO26PB1F1 (io), C15 IO26NB1F1 (io), C16 IO32NB2F2 (io), D1 IO116PB7F7 (io), D2 IO118NB7F7 (io), D3 IO118PB7F7 (io), D12 IO27PB1F1 (io), D13 IO27NB1F1 (io), D16 IO36PB2F2 (io), E1 IO112NB7F7 (io), E2 IO114NB7F7 (io), E3 IO119NB7F7 (io), E13 IO29PB2F2 (io), E14 IO30PB2F2 (io), E15 IO33PB2F2 (io), E16 IO36NB2F2 (io), F1 IO112PB7F7 (io), F2 IO114PB7F7 (io), F3 IO119PB7F7 (io), F13 IO29NB2F2 (io), F14 IO30NB2F2 (io), F15 IO33NB2F2 (io), F16 IO40PB2F2 (io), G1 IO113NB7F7 (io), G2 IO108NB7F7 (io), G3 IO111NB7F7 (io), G4 IO115NB7F7 (io), G13 IO35PB2F2 (io), G14 IO39PB2F2 (io), G15 IO38PB2F2 (io), G16 IO40NB2F2 (io), H2 IO108PB7F7 (io), H3 IO111PB7F7 (io), H4 IO115PB7F7 (io), H13 IO35NB2F2 (io), H14 IO39NB2F2 (io), H15 IO38NB2F2 (io), H16 IO44PB2F2 (io), J1 IO107NB7F7 (io), J2 IO104NB6F6 (io), J3 IO103NB6F6 (io), J4 IO97NB6F6 (io), J13 IO45PB3F3 (io), J14 IO46PB3F3 (io), J16 IO44NB2F2 (io), K1 IO107PB7F7 (io), K2 IO104PB6F6 (io), K3 IO103PB6F6 (io), K4 IO97PB6F6 (io), K13 IO45NB3F3 (io), K14 IO46NB3F3 (io), K15 IO43NB2F2 (io), K16 IO43PB2F2 (io), L1 IO102NB6F6 (io), L2 IO100NB6F6 (io), L3 IO92NB6F6 (io), L4 IO91NB6F6 (io), L13 IO59PB3F3 (io), L14 IO61PB3F3 (io), L15 IO52NB3F3 (io), L16 IO52PB3F3 (io), M1 IO102PB6F6 (io), M2 IO100PB6F6 (io), M3 IO92PB6F6 (io), M4 IO91PB6F6 (io), M13 IO59NB3F3 (io), M14 IO61NB3F3 (io), M15 IO58PB3F3 (io), M16 IO55PB3F3 (io), N1 IO98NB6F6 (io), N2 IO94PB6F6 (io), N4 IO89NB5F5 (io), N5 IO89PB5F5 (io), N12 IO62NB4F4 (io), N13 IO62PB4F4 (io), N15 IO58NB3F3 (io), N16 IO54PB3F3 (io), P1 IO98PB6F6 (io), P2 IO94NB6F6 (io), P5 IO81NB5F5 (io), P6 IO81PB5F5 (io), P7 IO76NB5F5/CLKGN (io), P8 IO76PB5F5/CLKGP (io), P11 IO69NB4F4 (io), P12 IO69PB4F4 (io), P15 IO56NB3F3 (io), P16 IO54NB3F3 (io), R1 IO88NB5F5 (io), R3 IO85NB5F5 (io), R4 IO85PB5F5 (io), R6 IO77NB5F5/CLKHN (io), R7 IO77PB5F5/CLKHP (io), R9 IO74NB4F4/CLKEN (io), R10 IO74PB4F4/CLKEP (io), R12 IO67NB4F4 (io), R13 IO67PB4F4 (io), R14 IO63PB4F4 (io), R16 IO56PB3F3 (io), T2 IO88PB5F5 (io), T3 IO83NB5F5 (io), T4 IO83PB5F5 (io), T5 IO79NB5F5 (io), T6 IO79PB5F5 (io), T8 IO75NB4F4/CLKFN (io), T9 IO75PB4F4/CLKFP (io), T11 IO70PB4F4 (io), T12 IO73NB4F4 (io), T13 IO73PB4F4 (io), T14 IO63NB4F4 (io), T15 IO66PB4F4 (io)
part B pins: A2 VCCDA (power), A7 VCOMPLA (power), A10 VCCPLC (power), A11 VCCDA (power), A14 VPUMP (power), B9 VCOMPLC (power), C3 TMS (in), C4 TDO (hiz), C5 ~{TRST} (in), C6 TDI (in), C7 VCCPLA (power), C8 PRB (out), C13 VCCDA (power), D5 TCK (in), D6 VCCPLB (power), D7 VCOMPLB (power), D8 PRA (out), D9 VCCDA (power), D10 VCCPLD (power), D11 VCOMPLD (power), D14 VCCA (power), E4 VCCDA (power), E6 VCCIB0 (power), E7 VCCIB0 (power), E8 VCCIB0 (power), E9 VCCIB1 (power), E10 VCCIB1 (power), E11 VCCIB1 (power), F4 VCCA (power), F5 VCCIB7 (power), F7 VCCA (power), F8 VCCA (power), F9 VCCA (power), F10 VCCA (power), F12 VCCIB2 (power), G5 VCCIB7 (power), G6 VCCA (power), G11 VCCA (power), G12 VCCIB2 (power), H1 VCCDA (power), H5 VCCIB7 (power), H6 VCCA (power), H11 VCCA (power), H12 VCCIB2 (power), J5 VCCIB6 (power), J6 VCCA (power), J11 VCCA (power), J12 VCCIB3 (power), J15 VCCDA (power), K5 VCCIB6 (power), K6 VCCA (power), K11 VCCA (power), K12 VCCIB3 (power), L5 VCCIB6 (power), L7 VCCA (power), L8 VCCA (power), L9 VCCA (power), L10 VCCA (power), L12 VCCIB3 (power), M6 VCCIB5 (power), M7 VCCIB5 (power), M8 VCCIB5 (power), M9 VCCIB4 (power), M10 VCCIB4 (power), M11 VCCIB4 (power), N3 VCCA (power), N6 VCOMPLH (power), N7 VCCPLH (power), N8 VCCDA (power), N9 PRC (out), N10 VCOMPLF (power), N11 VCCPLF (power), N14 VCCDA (power), P4 VCCDA (power), P9 PRD (out), P10 VCCPLE (power), P14 VCCA (power), R5 VCCDA (power), R8 VCOMPLG (power), R11 VCCDA (power), T7 VCCPLG (power), T10 VCOMPLE (power)
part C pins: A1 GND (power), A16 GND (power), B2 GND (power), B15 GND (power), D4 GND/LP (power), D15 GND (power), E5 GND (power), E12 GND (power), F6 GND (power), F11 GND (power), G7 GND (power), G8 GND (power), G9 GND (power), G10 GND (power), H7 GND (power), H8 GND (power), H9 GND (power), H10 GND (power), J7 GND (power), J8 GND (power), J9 GND (power), J10 GND (power), K7 GND (power), K8 GND (power), K9 GND (power), K10 GND (power), L6 GND (power), L11 GND (power), M5 GND (power), M12 GND (power), P3 GND (power), P13 GND (power), R2 GND (power), R15 GND (power), T1 GND (power), T16 GND (power)
part A text: Bank 0; Bank 1; Bank 7; Bank 2; Bank 6; Bank 3; Bank 5; Bank 4

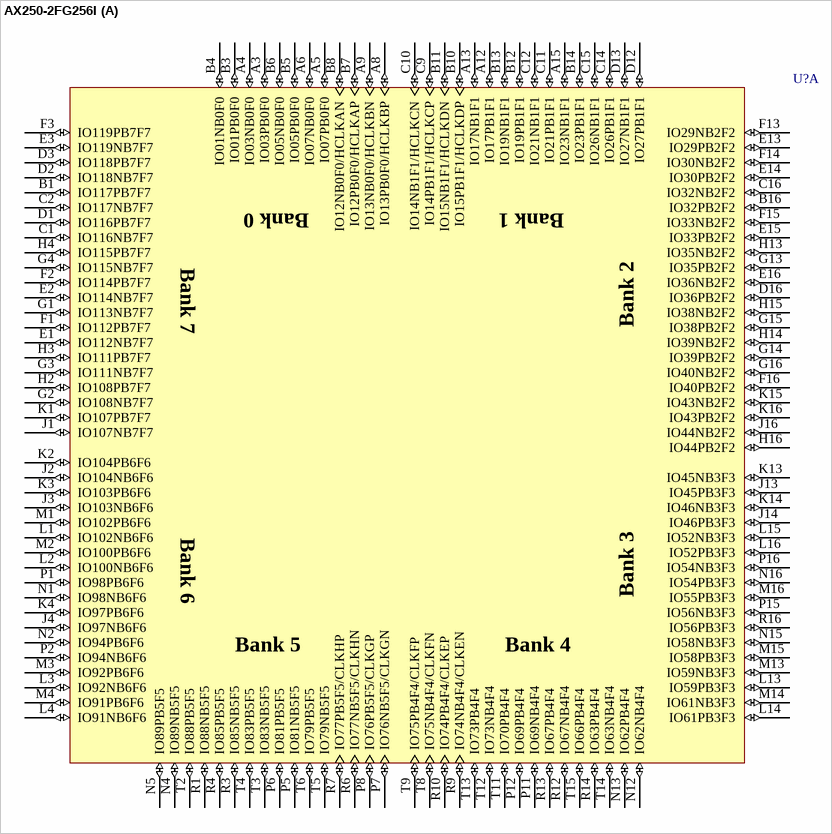
[diagram p58: symbol AX250-2FG256I]

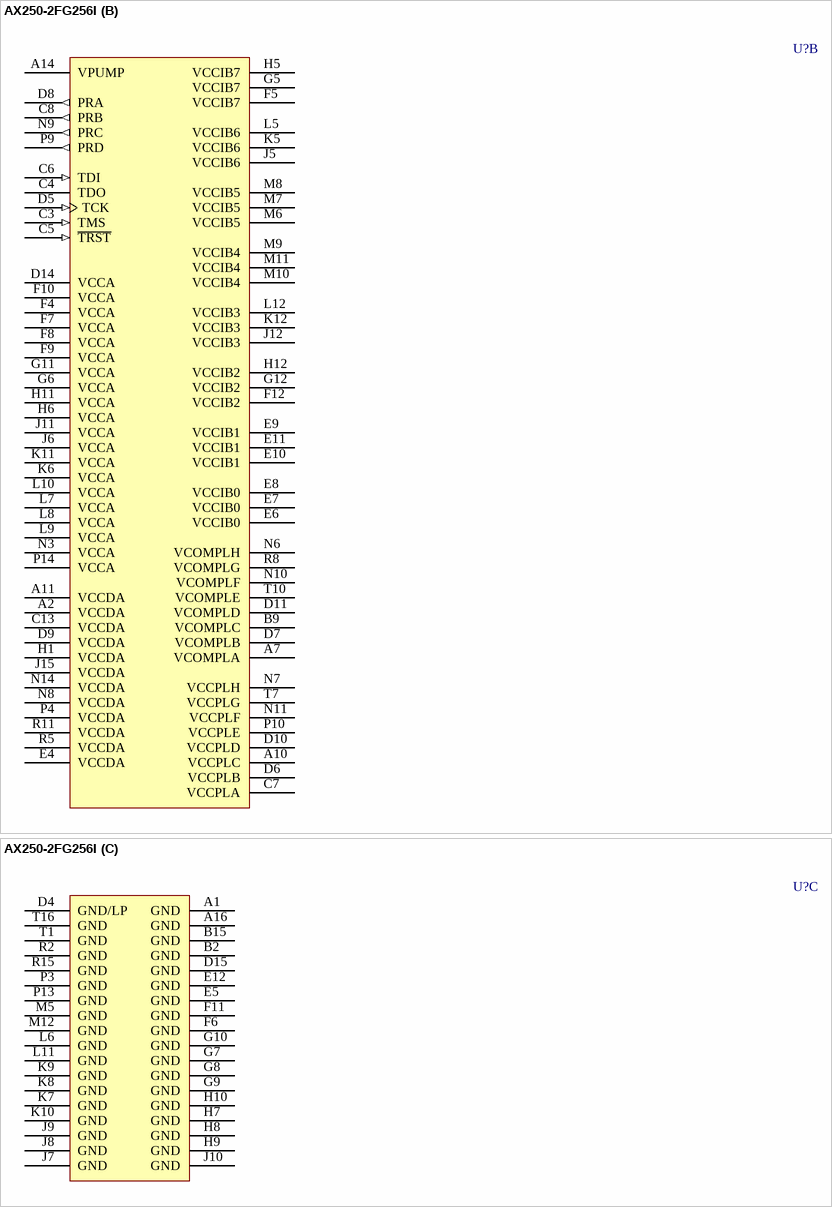
[diagram p59: symbol AX250-2FG256I]

## AX250-2FG256I
designator U?
Axcelerator AX250 FPGA, 138 User I/Os, 256-Pin FBGA, Speed Grade 2, Industrial Grade; Published: 21-May-2003; LatestRevisionDate: 11-Dec-2009; LatestRevisionNote: Updated to datasheet version 2.9 Oct-2009.; DatasheetVersion: v2.8, Oct-2009; PackageVersion: ver11.2, Nov-2009; PackageReference: FG256; Publisher: Altium Limited; PackageDescription: 256-Ball Fine Pitch Plastic Ball Grid Array 1.00 mm Pitch (FG256); Code_JEDEC: MO-192-DAF-1; ComponentLink1Description: Axcelerator Datasheet; ComponentLink1URL: http://www.actel.com/documents/AX_DS.pdf; ComponentLink2Description: Package Mechanical Drawings; ComponentLink2URL: http://www.actel.com/documents/PckgMechDrwngs.pdf; ComponentLink3Description: Axcelerator Documents; ComponentLink3URL: http://www.actel.com/products/axcelerator/docs.aspx; ComponentLink4Description: Actel.com Home; ComponentLink4URL: http://www.actel.com/
footprint FG256 (BGA, 256-Leads, Body 17x17mm, Pitch 1mm)
part A pins: A3 IO03PB0F0 (io), A4 IO03NB0F0 (io), A5 IO07PB0F0 (io), A6 IO07NB0F0 (io), A8 IO13PB0F0/HCLKBP (io), A9 IO13NB0F0/HCLKBN (io), A12 IO17PB1F1 (io), A13 IO17NB1F1 (io), A15 IO23NB1F1 (io), B1 IO117PB7F7 (io), B3 IO01PB0F0 (io), B4 IO01NB0F0 (io), B5 IO05PB0F0 (io), B6 IO05NB0F0 (io), B7 IO12PB0F0/HCLKAP (io), B8 IO12NB0F0/HCLKAN (io), B10 IO15PB1F1/HCLKDP (io), B11 IO15NB1F1/HCLKDN (io), B12 IO19PB1F1 (io), B13 IO19NB1F1 (io), B14 IO23PB1F1 (io), B16 IO32PB2F2 (io), C1 IO116NB7F7 (io), C2 IO117NB7F7 (io), C9 IO14PB1F1/HCLKCP (io), C10 IO14NB1F1/HCLKCN (io), C11 IO21PB1F1 (io), C12 IO21NB1F1 (io), C14 IO26PB1F1 (io), C15 IO26NB1F1 (io), C16 IO32NB2F2 (io), D1 IO116PB7F7 (io), D2 IO118NB7F7 (io), D3 IO118PB7F7 (io), D12 IO27PB1F1 (io), D13 IO27NB1F1 (io), D16 IO36PB2F2 (io), E1 IO112NB7F7 (io), E2 IO114NB7F7 (io), E3 IO119NB7F7 (io), E13 IO29PB2F2 (io), E14 IO30PB2F2 (io), E15 IO33PB2F2 (io), E16 IO36NB2F2 (io), F1 IO112PB7F7 (io), F2 IO114PB7F7 (io), F3 IO119PB7F7 (io), F13 IO29NB2F2 (io), F14 IO30NB2F2 (io), F15 IO33NB2F2 (io), F16 IO40PB2F2 (io), G1 IO113NB7F7 (io), G2 IO108NB7F7 (io), G3 IO111NB7F7 (io), G4 IO115NB7F7 (io), G13 IO35PB2F2 (io), G14 IO39PB2F2 (io), G15 IO38PB2F2 (io), G16 IO40NB2F2 (io), H2 IO108PB7F7 (io), H3 IO111PB7F7 (io), H4 IO115PB7F7 (io), H13 IO35NB2F2 (io), H14 IO39NB2F2 (io), H15 IO38NB2F2 (io), H16 IO44PB2F2 (io), J1 IO107NB7F7 (io), J2 IO104NB6F6 (io), J3 IO103NB6F6 (io), J4 IO97NB6F6 (io), J13 IO45PB3F3 (io), J14 IO46PB3F3 (io), J16 IO44NB2F2 (io), K1 IO107PB7F7 (io), K2 IO104PB6F6 (io), K3 IO103PB6F6 (io), K4 IO97PB6F6 (io), K13 IO45NB3F3 (io), K14 IO46NB3F3 (io), K15 IO43NB2F2 (io), K16 IO43PB2F2 (io), L1 IO102NB6F6 (io), L2 IO100NB6F6 (io), L3 IO92NB6F6 (io), L4 IO91NB6F6 (io), L13 IO59PB3F3 (io), L14 IO61PB3F3 (io), L15 IO52NB3F3 (io), L16 IO52PB3F3 (io), M1 IO102PB6F6 (io), M2 IO100PB6F6 (io), M3 IO92PB6F6 (io), M4 IO91PB6F6 (io), M13 IO59NB3F3 (io), M14 IO61NB3F3 (io), M15 IO58PB3F3 (io), M16 IO55PB3F3 (io), N1 IO98NB6F6 (io), N2 IO94PB6F6 (io), N4 IO89NB5F5 (io), N5 IO89PB5F5 (io), N12 IO62NB4F4 (io), N13 IO62PB4F4 (io), N15 IO58NB3F3 (io), N16 IO54PB3F3 (io), P1 IO98PB6F6 (io), P2 IO94NB6F6 (io), P5 IO81NB5F5 (io), P6 IO81PB5F5 (io), P7 IO76NB5F5/CLKGN (io), P8 IO76PB5F5/CLKGP (io), P11 IO69NB4F4 (io), P12 IO69PB4F4 (io), P15 IO56NB3F3 (io), P16 IO54NB3F3 (io), R1 IO88NB5F5 (io), R3 IO85NB5F5 (io), R4 IO85PB5F5 (io), R6 IO77NB5F5/CLKHN (io), R7 IO77PB5F5/CLKHP (io), R9 IO74NB4F4/CLKEN (io), R10 IO74PB4F4/CLKEP (io), R12 IO67NB4F4 (io), R13 IO67PB4F4 (io), R14 IO63PB4F4 (io), R16 IO56PB3F3 (io), T2 IO88PB5F5 (io), T3 IO83NB5F5 (io), T4 IO83PB5F5 (io), T5 IO79NB5F5 (io), T6 IO79PB5F5 (io), T8 IO75NB4F4/CLKFN (io), T9 IO75PB4F4/CLKFP (io), T11 IO70PB4F4 (io), T12 IO73NB4F4 (io), T13 IO73PB4F4 (io), T14 IO63NB4F4 (io), T15 IO66PB4F4 (io)
part B pins: A2 VCCDA (power), A7 VCOMPLA (power), A10 VCCPLC (power), A11 VCCDA (power), A14 VPUMP (power), B9 VCOMPLC (power), C3 TMS (in), C4 TDO (hiz), C5 ~{TRST} (in), C6 TDI (in), C7 VCCPLA (power), C8 PRB (out), C13 VCCDA (power), D5 TCK (in), D6 VCCPLB (power), D7 VCOMPLB (power), D8 PRA (out), D9 VCCDA (power), D10 VCCPLD (power), D11 VCOMPLD (power), D14 VCCA (power), E4 VCCDA (power), E6 VCCIB0 (power), E7 VCCIB0 (power), E8 VCCIB0 (power), E9 VCCIB1 (power), E10 VCCIB1 (power), E11 VCCIB1 (power), F4 VCCA (power), F5 VCCIB7 (power), F7 VCCA (power), F8 VCCA (power), F9 VCCA (power), F10 VCCA (power), F12 VCCIB2 (power), G5 VCCIB7 (power), G6 VCCA (power), G11 VCCA (power), G12 VCCIB2 (power), H1 VCCDA (power), H5 VCCIB7 (power), H6 VCCA (power), H11 VCCA (power), H12 VCCIB2 (power), J5 VCCIB6 (power), J6 VCCA (power), J11 VCCA (power), J12 VCCIB3 (power), J15 VCCDA (power), K5 VCCIB6 (power), K6 VCCA (power), K11 VCCA (power), K12 VCCIB3 (power), L5 VCCIB6 (power), L7 VCCA (power), L8 VCCA (power), L9 VCCA (power), L10 VCCA (power), L12 VCCIB3 (power), M6 VCCIB5 (power), M7 VCCIB5 (power), M8 VCCIB5 (power), M9 VCCIB4 (power), M10 VCCIB4 (power), M11 VCCIB4 (power), N3 VCCA (power), N6 VCOMPLH (power), N7 VCCPLH (power), N8 VCCDA (power), N9 PRC (out), N10 VCOMPLF (power), N11 VCCPLF (power), N14 VCCDA (power), P4 VCCDA (power), P9 PRD (out), P10 VCCPLE (power), P14 VCCA (power), R5 VCCDA (power), R8 VCOMPLG (power), R11 VCCDA (power), T7 VCCPLG (power), T10 VCOMPLE (power)
part C pins: A1 GND (power), A16 GND (power), B2 GND (power), B15 GND (power), D4 GND/LP (power), D15 GND (power), E5 GND (power), E12 GND (power), F6 GND (power), F11 GND (power), G7 GND (power), G8 GND (power), G9 GND (power), G10 GND (power), H7 GND (power), H8 GND (power), H9 GND (power), H10 GND (power), J7 GND (power), J8 GND (power), J9 GND (power), J10 GND (power), K7 GND (power), K8 GND (power), K9 GND (power), K10 GND (power), L6 GND (power), L11 GND (power), M5 GND (power), M12 GND (power), P3 GND (power), P13 GND (power), R2 GND (power), R15 GND (power), T1 GND (power), T16 GND (power)
part A text: Bank 0; Bank 1; Bank 7; Bank 2; Bank 6; Bank 3; Bank 5; Bank 4

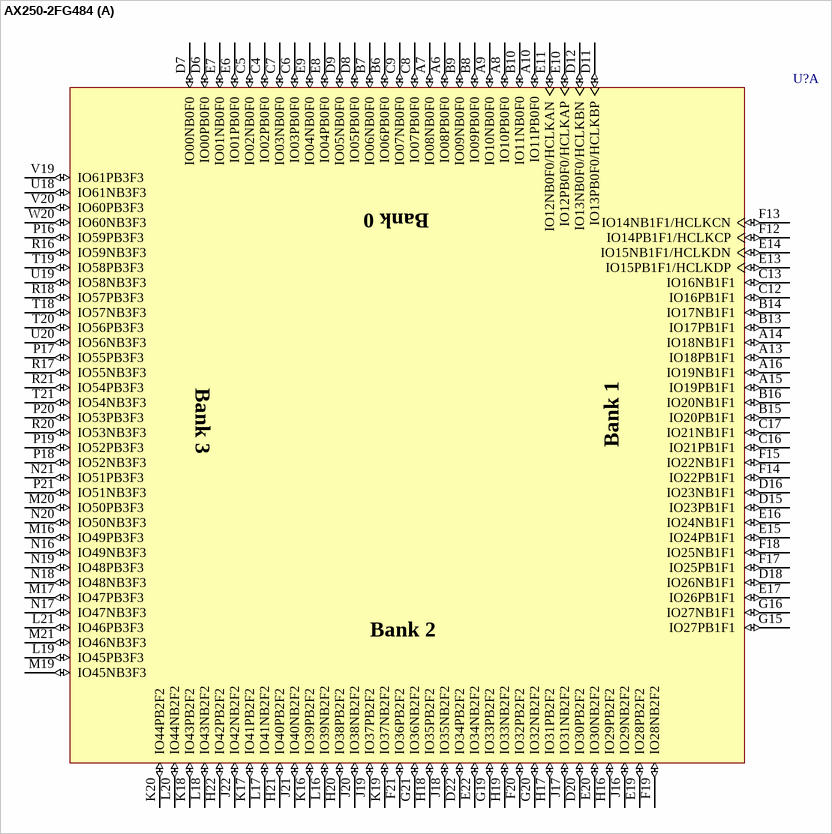
[diagram p60: symbol AX250-2FG484]

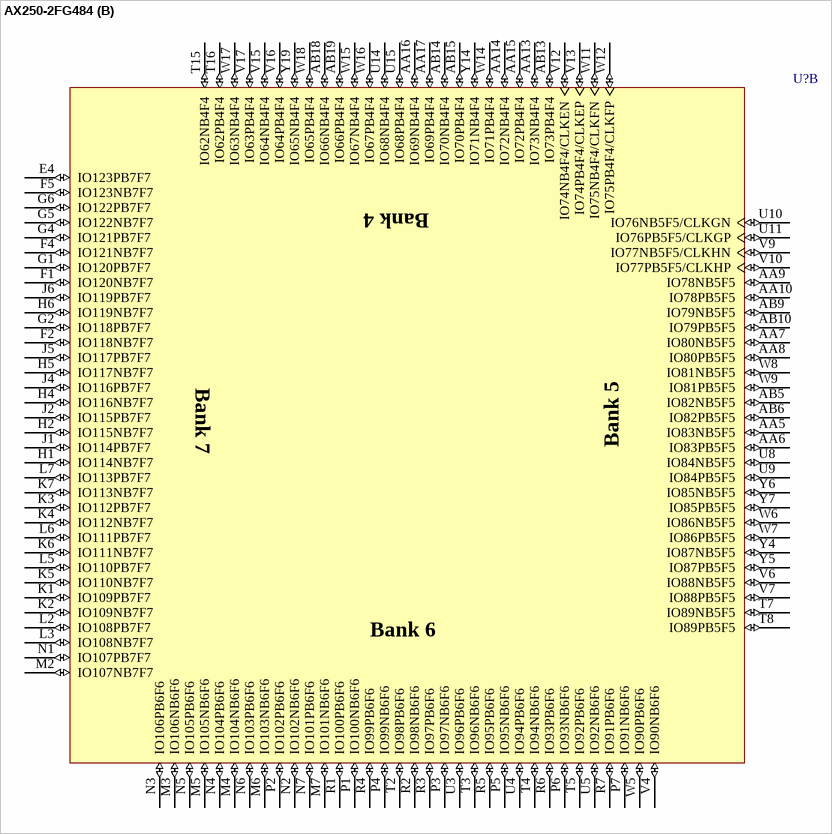
[diagram p61: symbol AX250-2FG484]

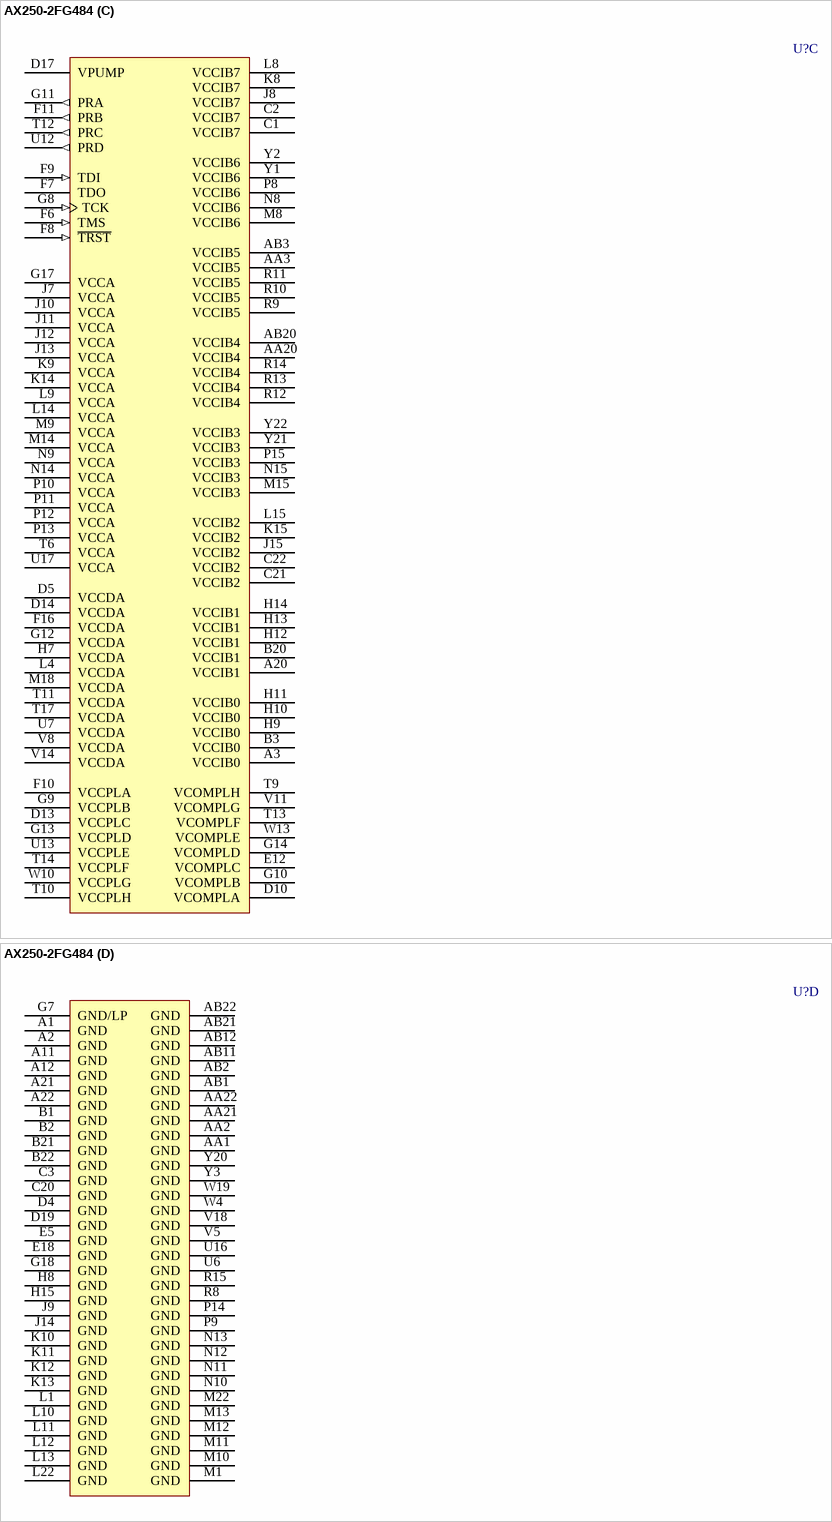
[diagram p62: symbol AX250-2FG484]

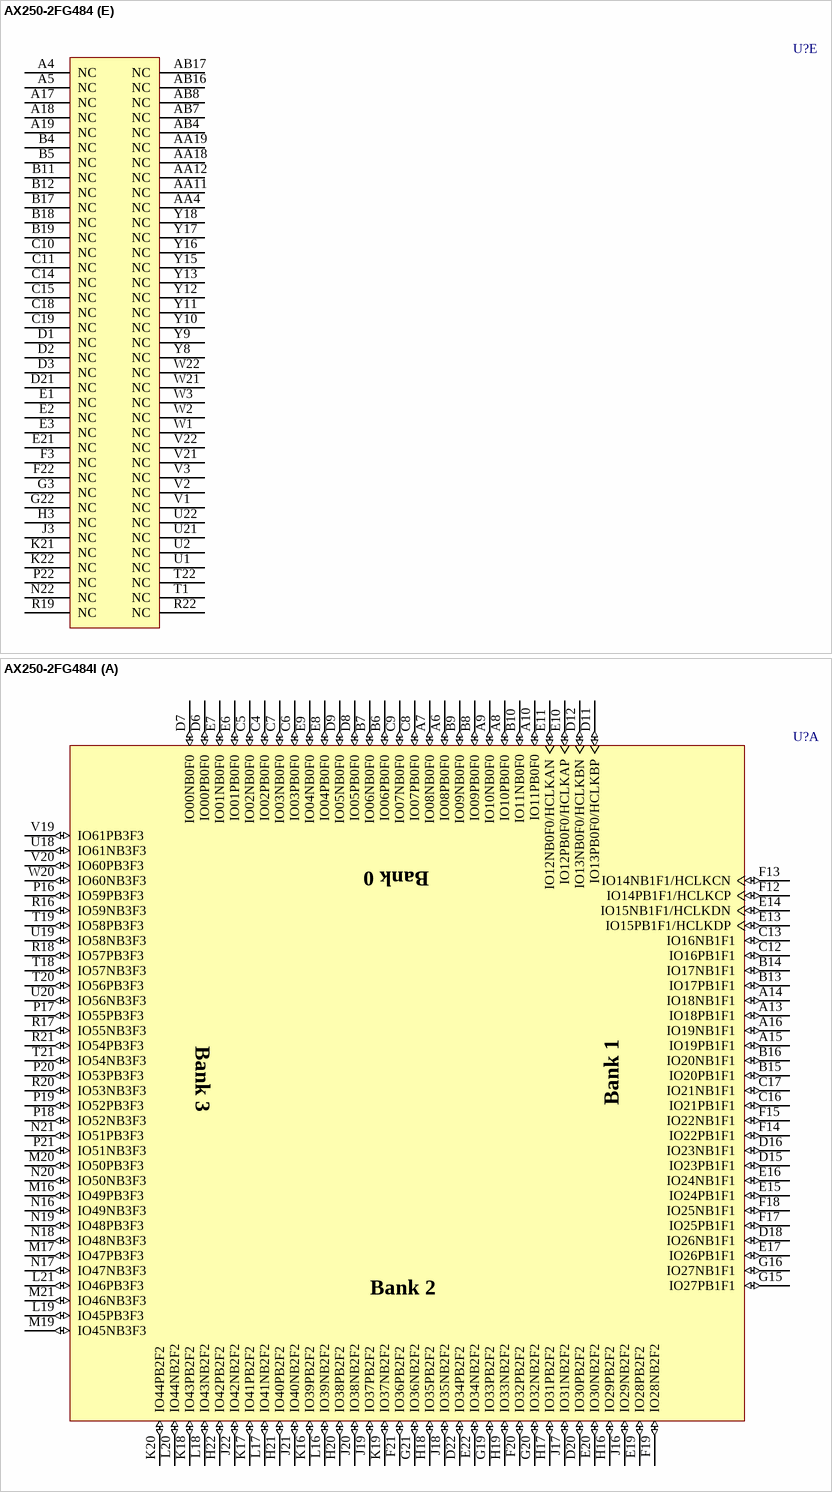
[diagram p63: symbols AX250-2FG484 to AX250-2FG484I]